# Altium schematic symbol library dungvh03-CERN_Logic.SchLib: 486 symbols (part 4 of 54)
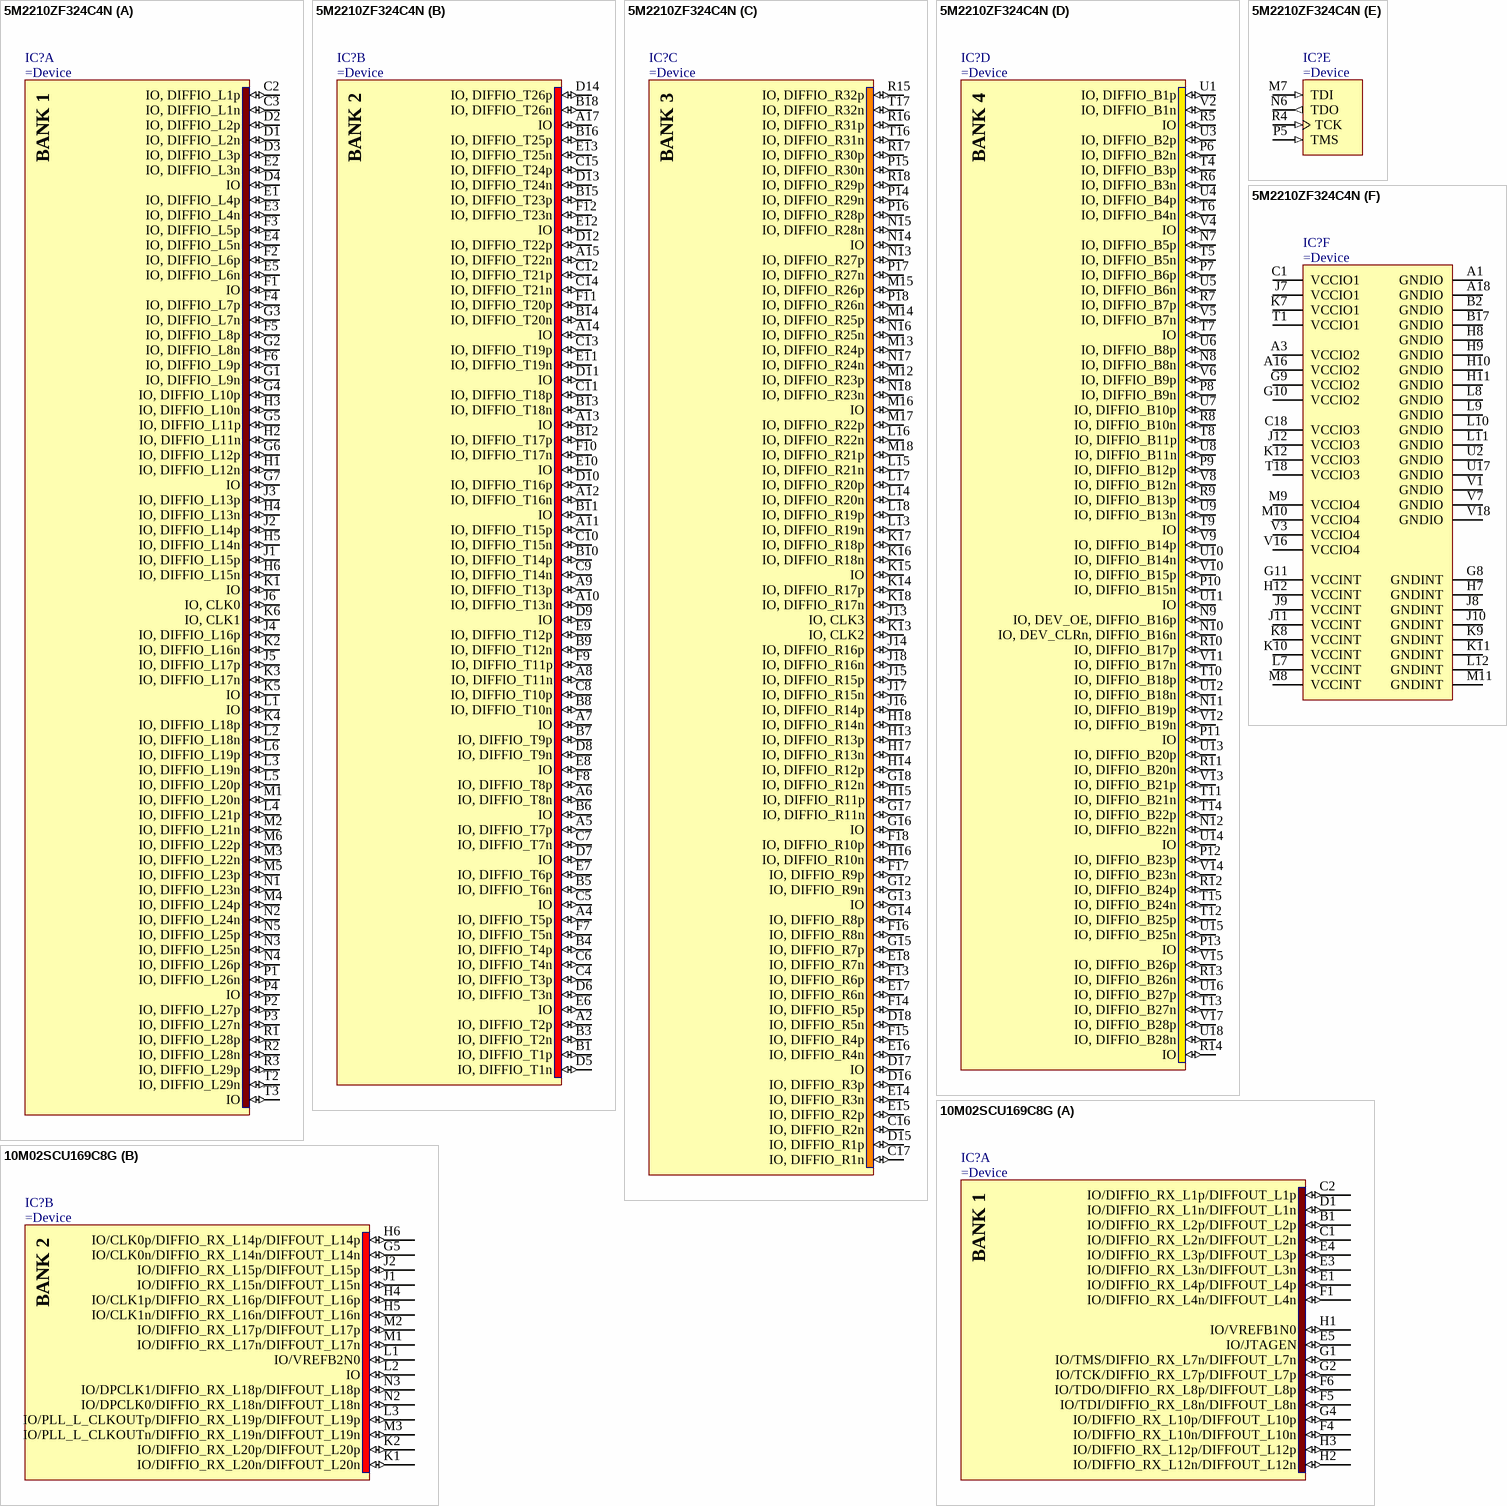
[diagram p264: symbols 5M2210ZF324C4N to 10M02SCU169C8G]

## 5M2210ZF324C4N
designator IC?
MAX V 1.8V CPLD, 271 IOs, 2210 Logic Elements, 324-Pin FBGA, Commercial Temperature, Speed Grade 4, Pb-Free
part A pins: C2 IO, DIFFIO_L1p (io), C3 IO, DIFFIO_L1n (io), D1 IO, DIFFIO_L2n (io), D2 IO, DIFFIO_L2p (io), D3 IO, DIFFIO_L3p (io), D4 IO (io), E1 IO, DIFFIO_L4p (io), E2 IO, DIFFIO_L3n (io), E3 IO, DIFFIO_L4n (io), E4 IO, DIFFIO_L5n (io), E5 IO, DIFFIO_L6n (io), F1 IO (io), F2 IO, DIFFIO_L6p (io), F3 IO, DIFFIO_L5p (io), F4 IO, DIFFIO_L7p (io), F5 IO, DIFFIO_L8p (io), F6 IO, DIFFIO_L9p (io), G1 IO, DIFFIO_L9n (io), G2 IO, DIFFIO_L8n (io), G3 IO, DIFFIO_L7n (io), G4 IO, DIFFIO_L10p (io), G5 IO, DIFFIO_L11p (io), G6 IO, DIFFIO_L12p (io), G7 IO (io), H1 IO, DIFFIO_L12n (io), H2 IO, DIFFIO_L11n (io), H3 IO, DIFFIO_L10n (io), H4 IO, DIFFIO_L13n (io), H5 IO, DIFFIO_L14n (io), H6 IO, DIFFIO_L15n (io), J1 IO, DIFFIO_L15p (io), J2 IO, DIFFIO_L14p (io), J3 IO, DIFFIO_L13p (io), J4 IO, DIFFIO_L16p (io), J5 IO, DIFFIO_L17p (io), J6 IO, CLK0 (io), K1 IO (io), K2 IO, DIFFIO_L16n (io), K3 IO, DIFFIO_L17n (io), K4 IO, DIFFIO_L18p (io), K5 IO (io), K6 IO, CLK1 (io), L1 IO (io), L2 IO, DIFFIO_L18n (io), L3 IO, DIFFIO_L19n (io), L4 IO, DIFFIO_L21p (io), L5 IO, DIFFIO_L20p (io), L6 IO, DIFFIO_L19p (io), M1 IO, DIFFIO_L20n (io), M2 IO, DIFFIO_L21n (io), M3 IO, DIFFIO_L22n (io), M4 IO, DIFFIO_L24p (io), M5 IO, DIFFIO_L23p (io), M6 IO, DIFFIO_L22p (io), N1 IO, DIFFIO_L23n (io), N2 IO, DIFFIO_L24n (io), N3 IO, DIFFIO_L25n (io), N4 IO, DIFFIO_L26p (io), N5 IO, DIFFIO_L25p (io), P1 IO, DIFFIO_L26n (io), P2 IO, DIFFIO_L27p (io), P3 IO, DIFFIO_L27n (io), P4 IO (io), R1 IO, DIFFIO_L28p (io), R2 IO, DIFFIO_L28n (io), R3 IO, DIFFIO_L29p (io), T2 IO, DIFFIO_L29n (io), T3 IO (io)
part B pins: A2 IO, DIFFIO_T2p (io), A4 IO, DIFFIO_T5p (io), A5 IO, DIFFIO_T7p (io), A6 IO, DIFFIO_T8n (io), A7 IO (io), A8 IO, DIFFIO_T11n (io), A9 IO, DIFFIO_T13p (io), A10 IO, DIFFIO_T13n (io), A11 IO, DIFFIO_T15p (io), A12 IO, DIFFIO_T16n (io), A13 IO (io), A14 IO (io), A15 IO, DIFFIO_T22n (io), A17 IO (io), B1 IO, DIFFIO_T1p (io), B3 IO, DIFFIO_T2n (io), B4 IO, DIFFIO_T4p (io), B5 IO, DIFFIO_T6n (io), B6 IO (io), B7 IO, DIFFIO_T9p (io), B8 IO, DIFFIO_T10n (io), B9 IO, DIFFIO_T12n (io), B10 IO, DIFFIO_T14p (io), B11 IO (io), B12 IO, DIFFIO_T17p (io), B13 IO, DIFFIO_T18n (io), B14 IO, DIFFIO_T20n (io), B15 IO, DIFFIO_T23p (io), B16 IO, DIFFIO_T25p (io), B18 IO, DIFFIO_T26n (io), C4 IO, DIFFIO_T3p (io), C5 IO (io), C6 IO, DIFFIO_T4n (io), C7 IO, DIFFIO_T7n (io), C8 IO, DIFFIO_T10p (io), C9 IO, DIFFIO_T14n (io), C10 IO, DIFFIO_T15n (io), C11 IO, DIFFIO_T18p (io), C12 IO, DIFFIO_T21p (io), C13 IO, DIFFIO_T19p (io), C14 IO, DIFFIO_T21n (io), C15 IO, DIFFIO_T24p (io), D5 IO, DIFFIO_T1n (io), D6 IO, DIFFIO_T3n (io), D7 IO (io), D8 IO, DIFFIO_T9n (io), D9 IO (io), D10 IO, DIFFIO_T16p (io), D11 IO (io), D12 IO, DIFFIO_T22p (io), D13 IO, DIFFIO_T24n (io), D14 IO, DIFFIO_T26p (io), E6 IO (io), E7 IO, DIFFIO_T6p (io), E8 IO (io), E9 IO, DIFFIO_T12p (io), E10 IO (io), E11 IO, DIFFIO_T19n (io), E12 IO (io), E13 IO, DIFFIO_T25n (io), F7 IO, DIFFIO_T5n (io), F8 IO, DIFFIO_T8p (io), F9 IO, DIFFIO_T11p (io), F10 IO, DIFFIO_T17n (io), F11 IO, DIFFIO_T20p (io), F12 IO, DIFFIO_T23n (io)
part C pins: C16 IO, DIFFIO_R2n (io), C17 IO, DIFFIO_R1n (io), D15 IO, DIFFIO_R1p (io), D16 IO, DIFFIO_R3p (io), D17 IO (io), D18 IO, DIFFIO_R5n (io), E14 IO, DIFFIO_R3n (io), E15 IO, DIFFIO_R2p (io), E16 IO, DIFFIO_R4n (io), E17 IO, DIFFIO_R6n (io), E18 IO, DIFFIO_R7n (io), F13 IO, DIFFIO_R6p (io), F14 IO, DIFFIO_R5p (io), F15 IO, DIFFIO_R4p (io), F16 IO, DIFFIO_R8n (io), F17 IO, DIFFIO_R9p (io), F18 IO, DIFFIO_R10p (io), G12 IO, DIFFIO_R9n (io), G13 IO (io), G14 IO, DIFFIO_R8p (io), G15 IO, DIFFIO_R7p (io), G16 IO (io), G17 IO, DIFFIO_R11n (io), G18 IO, DIFFIO_R12n (io), H13 IO, DIFFIO_R13p (io), H14 IO, DIFFIO_R12p (io), H15 IO, DIFFIO_R11p (io), H16 IO, DIFFIO_R10n (io), H17 IO, DIFFIO_R13n (io), H18 IO, DIFFIO_R14n (io), J13 IO, CLK3 (io), J14 IO, DIFFIO_R16p (io), J15 IO, DIFFIO_R15p (io), J16 IO, DIFFIO_R14p (io), J17 IO, DIFFIO_R15n (io), J18 IO, DIFFIO_R16n (io), K13 IO, CLK2 (io), K14 IO, DIFFIO_R17p (io), K15 IO (io), K16 IO, DIFFIO_R18n (io), K17 IO, DIFFIO_R18p (io), K18 IO, DIFFIO_R17n (io), L13 IO, DIFFIO_R19n (io), L14 IO, DIFFIO_R20n (io), L15 IO, DIFFIO_R21n (io), L16 IO, DIFFIO_R22n (io), L17 IO, DIFFIO_R20p (io), L18 IO, DIFFIO_R19p (io), M12 IO, DIFFIO_R23p (io), M13 IO, DIFFIO_R24p (io), M14 IO, DIFFIO_R25p (io), M15 IO, DIFFIO_R26p (io), M16 IO (io), M17 IO, DIFFIO_R22p (io), M18 IO, DIFFIO_R21p (io), N13 IO, DIFFIO_R27p (io), N14 IO (io), N15 IO, DIFFIO_R28n (io), N16 IO, DIFFIO_R25n (io), N17 IO, DIFFIO_R24n (io), N18 IO, DIFFIO_R23n (io), P14 IO, DIFFIO_R29n (io), P15 IO, DIFFIO_R30n (io), P16 IO, DIFFIO_R28p (io), P17 IO, DIFFIO_R27n (io), P18 IO, DIFFIO_R26n (io), R15 IO, DIFFIO_R32p (io), R16 IO, DIFFIO_R31p (io), R17 IO, DIFFIO_R30p (io), R18 IO, DIFFIO_R29p (io), T16 IO, DIFFIO_R31n (io), T17 IO, DIFFIO_R32n (io)
part D pins: N7 IO, DIFFIO_B5p (io), N8 IO, DIFFIO_B8n (io), N9 IO, DEV_OE, DIFFIO_B16p (io), N10 IO, DEV_CLRn, DIFFIO_B16n (io), N11 IO, DIFFIO_B19p (io), N12 IO, DIFFIO_B22n (io), P6 IO, DIFFIO_B2n (io), P7 IO, DIFFIO_B6p (io), P8 IO, DIFFIO_B9n (io), P9 IO, DIFFIO_B12p (io), P10 IO, DIFFIO_B15n (io), P11 IO (io), P12 IO, DIFFIO_B23p (io), P13 IO (io), R5 IO (io), R6 IO, DIFFIO_B3n (io), R7 IO, DIFFIO_B7p (io), R8 IO, DIFFIO_B10n (io), R9 IO, DIFFIO_B13p (io), R10 IO, DIFFIO_B17p (io), R11 IO, DIFFIO_B20n (io), R12 IO, DIFFIO_B24p (io), R13 IO, DIFFIO_B26n (io), R14 IO (io), T4 IO, DIFFIO_B3p (io), T5 IO, DIFFIO_B5n (io), T6 IO, DIFFIO_B4n (io), T7 IO (io), T8 IO, DIFFIO_B11p (io), T9 IO (io), T10 IO, DIFFIO_B18p (io), T11 IO, DIFFIO_B21n (io), T12 IO, DIFFIO_B25p (io), T13 IO, DIFFIO_B27n (io), T14 IO, DIFFIO_B22p (io), T15 IO, DIFFIO_B24n (io), U1 IO, DIFFIO_B1p (io), U3 IO, DIFFIO_B2p (io), U4 IO, DIFFIO_B4p (io), U5 IO, DIFFIO_B6n (io), U6 IO, DIFFIO_B8p (io), U7 IO, DIFFIO_B10p (io), U8 IO, DIFFIO_B11n (io), U9 IO, DIFFIO_B13n (io), U10 IO, DIFFIO_B14n (io), U11 IO (io), U12 IO, DIFFIO_B18n (io), U13 IO, DIFFIO_B20p (io), U14 IO (io), U15 IO, DIFFIO_B25n (io), U16 IO, DIFFIO_B27p (io), U18 IO, DIFFIO_B28n (io), V2 IO, DIFFIO_B1n (io), V4 IO (io), V5 IO, DIFFIO_B7n (io), V6 IO, DIFFIO_B9p (io), V8 IO, DIFFIO_B12n (io), V9 IO, DIFFIO_B14p (io), V10 IO, DIFFIO_B15p (io), V11 IO, DIFFIO_B17n (io), V12 IO, DIFFIO_B19n (io), V13 IO, DIFFIO_B21p (io), V14 IO, DIFFIO_B23n (io), V15 IO, DIFFIO_B26p (io), V17 IO, DIFFIO_B28p (io)
part E pins: M7 TDI (in), N6 TDO (out), P5 TMS (in), R4 TCK (in)
part F pins: A1 GNDIO (power), A3 VCCIO2 (power), A16 VCCIO2 (power), A18 GNDIO (power), B2 GNDIO (power), B17 GNDIO (power), C1 VCCIO1 (power), C18 VCCIO3 (power), G8 GNDINT (power), G9 VCCIO2 (power), G10 VCCIO2 (power), G11 VCCINT (power), H7 GNDINT (power), H8 GNDIO (power), H9 GNDIO (power), H10 GNDIO (power), H11 GNDIO (power), H12 VCCINT (power), J7 VCCIO1 (power), J8 GNDINT (power), J9 VCCINT (power), J10 GNDINT (power), J11 VCCINT (power), J12 VCCIO3 (power), K7 VCCIO1 (power), K8 VCCINT (power), K9 GNDINT (power), K10 VCCINT (power), K11 GNDINT (power), K12 VCCIO3 (power), L7 VCCINT (power), L8 GNDIO (power), L9 GNDIO (power), L10 GNDIO (power), L11 GNDIO (power), L12 GNDINT (power), M8 VCCINT (power), M9 VCCIO4 (power), M10 VCCIO4 (power), M11 GNDINT (power), T1 VCCIO1 (power), T18 VCCIO3 (power), U2 GNDIO (power), U17 GNDIO (power), V1 GNDIO (power), V3 VCCIO4 (power), V7 GNDIO (power), V16 VCCIO4 (power), V18 GNDIO (power)
part A text: BANK 1
part B text: BANK 2
part C text: BANK 3
part D text: BANK 4

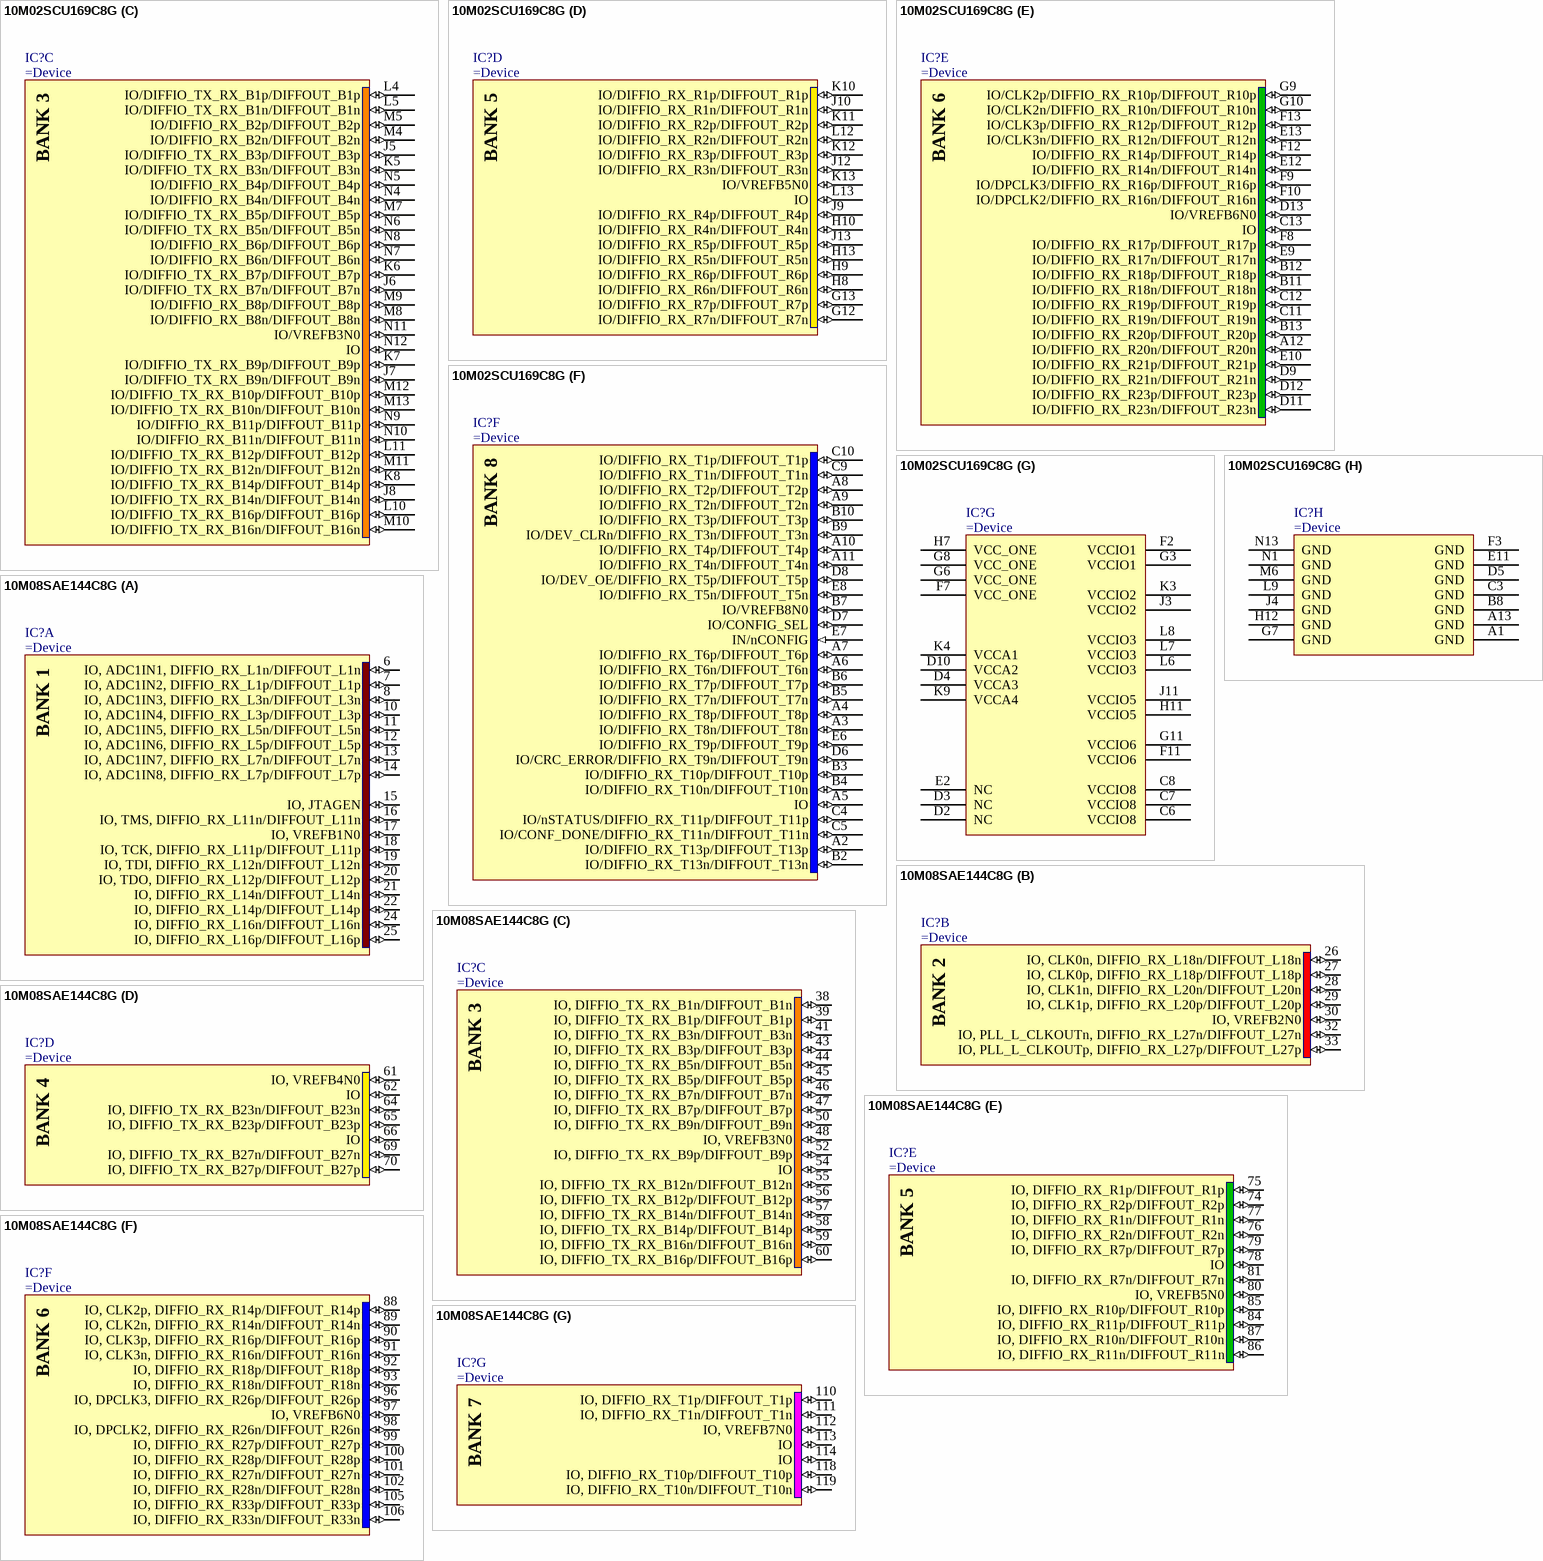
[diagram p16: symbols 10M02SCU169C8G to 10M08SAE144C8G]

## 10M02SCU169C8G
designator IC?
MAX 10 FPGA, Single-Supply 3.3V, 130IOs,  2K Logic Elements, 169-Pin UBGA, Commercial Temperature, Speed Grade 8, RoHS
part A pins: B1 IO/DIFFIO_RX_L2p/DIFFOUT_L2p (io), C1 IO/DIFFIO_RX_L2n/DIFFOUT_L2n (io), C2 IO/DIFFIO_RX_L1p/DIFFOUT_L1p (io), D1 IO/DIFFIO_RX_L1n/DIFFOUT_L1n (io), E1 IO/DIFFIO_RX_L4p/DIFFOUT_L4p (io), E3 IO/DIFFIO_RX_L3n/DIFFOUT_L3n (io), E4 IO/DIFFIO_RX_L3p/DIFFOUT_L3p (io), E5 IO/JTAGEN (io), F1 IO/DIFFIO_RX_L4n/DIFFOUT_L4n (io), F4 IO/DIFFIO_RX_L10n/DIFFOUT_L10n (io), F5 IO/TDI/DIFFIO_RX_L8n/DIFFOUT_L8n (io), F6 IO/TDO/DIFFIO_RX_L8p/DIFFOUT_L8p (io), G1 IO/TMS/DIFFIO_RX_L7n/DIFFOUT_L7n (io), G2 IO/TCK/DIFFIO_RX_L7p/DIFFOUT_L7p (io), G4 IO/DIFFIO_RX_L10p/DIFFOUT_L10p (io), H1 IO/VREFB1N0 (io), H2 IO/DIFFIO_RX_L12n/DIFFOUT_L12n (io), H3 IO/DIFFIO_RX_L12p/DIFFOUT_L12p (io)
part B pins: G5 IO/CLK0n/DIFFIO_RX_L14n/DIFFOUT_L14n (io), H4 IO/CLK1p/DIFFIO_RX_L16p/DIFFOUT_L16p (io), H5 IO/CLK1n/DIFFIO_RX_L16n/DIFFOUT_L16n (io), H6 IO/CLK0p/DIFFIO_RX_L14p/DIFFOUT_L14p (io), J1 IO/DIFFIO_RX_L15n/DIFFOUT_L15n (io), J2 IO/DIFFIO_RX_L15p/DIFFOUT_L15p (io), K1 IO/DIFFIO_RX_L20n/DIFFOUT_L20n (io), K2 IO/DIFFIO_RX_L20p/DIFFOUT_L20p (io), L1 IO/VREFB2N0 (io), L2 IO (io), L3 IO/PLL_L_CLKOUTp/DIFFIO_RX_L19p/DIFFOUT_L19p (io), M1 IO/DIFFIO_RX_L17n/DIFFOUT_L17n (io), M2 IO/DIFFIO_RX_L17p/DIFFOUT_L17p (io), M3 IO/PLL_L_CLKOUTn/DIFFIO_RX_L19n/DIFFOUT_L19n (io), N2 IO/DPCLK0/DIFFIO_RX_L18n/DIFFOUT_L18n (io), N3 IO/DPCLK1/DIFFIO_RX_L18p/DIFFOUT_L18p (io)
part C pins: J5 IO/DIFFIO_TX_RX_B3p/DIFFOUT_B3p (io), J6 IO/DIFFIO_TX_RX_B7n/DIFFOUT_B7n (io), J7 IO/DIFFIO_TX_RX_B9n/DIFFOUT_B9n (io), J8 IO/DIFFIO_TX_RX_B14n/DIFFOUT_B14n (io), K5 IO/DIFFIO_TX_RX_B3n/DIFFOUT_B3n (io), K6 IO/DIFFIO_TX_RX_B7p/DIFFOUT_B7p (io), K7 IO/DIFFIO_TX_RX_B9p/DIFFOUT_B9p (io), K8 IO/DIFFIO_TX_RX_B14p/DIFFOUT_B14p (io), L4 IO/DIFFIO_TX_RX_B1p/DIFFOUT_B1p (io), L5 IO/DIFFIO_TX_RX_B1n/DIFFOUT_B1n (io), L10 IO/DIFFIO_TX_RX_B16p/DIFFOUT_B16p (io), L11 IO/DIFFIO_TX_RX_B12p/DIFFOUT_B12p (io), M4 IO/DIFFIO_RX_B2n/DIFFOUT_B2n (io), M5 IO/DIFFIO_RX_B2p/DIFFOUT_B2p (io), M7 IO/DIFFIO_TX_RX_B5p/DIFFOUT_B5p (io), M8 IO/DIFFIO_RX_B8n/DIFFOUT_B8n (io), M9 IO/DIFFIO_RX_B8p/DIFFOUT_B8p (io), M10 IO/DIFFIO_TX_RX_B16n/DIFFOUT_B16n (io), M11 IO/DIFFIO_TX_RX_B12n/DIFFOUT_B12n (io), M12 IO/DIFFIO_TX_RX_B10p/DIFFOUT_B10p (io), M13 IO/DIFFIO_TX_RX_B10n/DIFFOUT_B10n (io), N4 IO/DIFFIO_RX_B4n/DIFFOUT_B4n (io), N5 IO/DIFFIO_RX_B4p/DIFFOUT_B4p (io), N6 IO/DIFFIO_TX_RX_B5n/DIFFOUT_B5n (io), N7 IO/DIFFIO_RX_B6n/DIFFOUT_B6n (io), N8 IO/DIFFIO_RX_B6p/DIFFOUT_B6p (io), N9 IO/DIFFIO_RX_B11p/DIFFOUT_B11p (io), N10 IO/DIFFIO_RX_B11n/DIFFOUT_B11n (io), N11 IO/VREFB3N0 (io), N12 IO (io)
part D pins: G12 IO/DIFFIO_RX_R7n/DIFFOUT_R7n (io), G13 IO/DIFFIO_RX_R7p/DIFFOUT_R7p (io), H8 IO/DIFFIO_RX_R6n/DIFFOUT_R6n (io), H9 IO/DIFFIO_RX_R6p/DIFFOUT_R6p (io), H10 IO/DIFFIO_RX_R4n/DIFFOUT_R4n (io), H13 IO/DIFFIO_RX_R5n/DIFFOUT_R5n (io), J9 IO/DIFFIO_RX_R4p/DIFFOUT_R4p (io), J10 IO/DIFFIO_RX_R1n/DIFFOUT_R1n (io), J12 IO/DIFFIO_RX_R3n/DIFFOUT_R3n (io), J13 IO/DIFFIO_RX_R5p/DIFFOUT_R5p (io), K10 IO/DIFFIO_RX_R1p/DIFFOUT_R1p (io), K11 IO/DIFFIO_RX_R2p/DIFFOUT_R2p (io), K12 IO/DIFFIO_RX_R3p/DIFFOUT_R3p (io), K13 IO/VREFB5N0 (io), L12 IO/DIFFIO_RX_R2n/DIFFOUT_R2n (io), L13 IO (io)
part E pins: A12 IO/DIFFIO_RX_R20n/DIFFOUT_R20n (io), B11 IO/DIFFIO_RX_R18n/DIFFOUT_R18n (io), B12 IO/DIFFIO_RX_R18p/DIFFOUT_R18p (io), B13 IO/DIFFIO_RX_R20p/DIFFOUT_R20p (io), C11 IO/DIFFIO_RX_R19n/DIFFOUT_R19n (io), C12 IO/DIFFIO_RX_R19p/DIFFOUT_R19p (io), C13 IO (io), D9 IO/DIFFIO_RX_R21n/DIFFOUT_R21n (io), D11 IO/DIFFIO_RX_R23n/DIFFOUT_R23n (io), D12 IO/DIFFIO_RX_R23p/DIFFOUT_R23p (io), D13 IO/VREFB6N0 (io), E9 IO/DIFFIO_RX_R17n/DIFFOUT_R17n (io), E10 IO/DIFFIO_RX_R21p/DIFFOUT_R21p (io), E12 IO/DIFFIO_RX_R14n/DIFFOUT_R14n (io), E13 IO/CLK3n/DIFFIO_RX_R12n/DIFFOUT_R12n (io), F8 IO/DIFFIO_RX_R17p/DIFFOUT_R17p (io), F9 IO/DPCLK3/DIFFIO_RX_R16p/DIFFOUT_R16p (io), F10 IO/DPCLK2/DIFFIO_RX_R16n/DIFFOUT_R16n (io), F12 IO/DIFFIO_RX_R14p/DIFFOUT_R14p (io), F13 IO/CLK3p/DIFFIO_RX_R12p/DIFFOUT_R12p (io), G9 IO/CLK2p/DIFFIO_RX_R10p/DIFFOUT_R10p (io), G10 IO/CLK2n/DIFFIO_RX_R10n/DIFFOUT_R10n (io)
part F pins: A2 IO/DIFFIO_RX_T13p/DIFFOUT_T13p (io), A3 IO/DIFFIO_RX_T8n/DIFFOUT_T8n (io), A4 IO/DIFFIO_RX_T8p/DIFFOUT_T8p (io), A5 IO (io), A6 IO/DIFFIO_RX_T6n/DIFFOUT_T6n (io), A7 IO/DIFFIO_RX_T6p/DIFFOUT_T6p (io), A8 IO/DIFFIO_RX_T2p/DIFFOUT_T2p (io), A9 IO/DIFFIO_RX_T2n/DIFFOUT_T2n (io), A10 IO/DIFFIO_RX_T4p/DIFFOUT_T4p (io), A11 IO/DIFFIO_RX_T4n/DIFFOUT_T4n (io), B2 IO/DIFFIO_RX_T13n/DIFFOUT_T13n (io), B3 IO/DIFFIO_RX_T10p/DIFFOUT_T10p (io), B4 IO/DIFFIO_RX_T10n/DIFFOUT_T10n (io), B5 IO/DIFFIO_RX_T7n/DIFFOUT_T7n (io), B6 IO/DIFFIO_RX_T7p/DIFFOUT_T7p (io), B7 IO/VREFB8N0 (io), B9 IO/DEV_CLRn/DIFFIO_RX_T3n/DIFFOUT_T3n (io), B10 IO/DIFFIO_RX_T3p/DIFFOUT_T3p (io), C4 IO/nSTATUS/DIFFIO_RX_T11p/DIFFOUT_T11p (io), C5 IO/CONF_DONE/DIFFIO_RX_T11n/DIFFOUT_T11n (io), C9 IO/DIFFIO_RX_T1n/DIFFOUT_T1n (io), C10 IO/DIFFIO_RX_T1p/DIFFOUT_T1p (io), D6 IO/CRC_ERROR/DIFFIO_RX_T9n/DIFFOUT_T9n (io), D7 IO/CONFIG_SEL (io), D8 IO/DEV_OE/DIFFIO_RX_T5p/DIFFOUT_T5p (io), E6 IO/DIFFIO_RX_T9p/DIFFOUT_T9p (io), E7 IN/nCONFIG (in), E8 IO/DIFFIO_RX_T5n/DIFFOUT_T5n (io)
part G pins: C6 VCCIO8 (power), C7 VCCIO8 (power), C8 VCCIO8 (power), D2 NC, D3 NC, D4 VCCA3 (power), D10 VCCA2 (power), E2 NC, F2 VCCIO1 (power), F7 VCC_ONE (power), F11 VCCIO6 (power), G3 VCCIO1 (power), G6 VCC_ONE (power), G8 VCC_ONE (power), G11 VCCIO6 (power), H7 VCC_ONE (power), H11 VCCIO5 (power), J3 VCCIO2 (power), J11 VCCIO5 (power), K3 VCCIO2 (power), K4 VCCA1 (power), K9 VCCA4 (power), L6 VCCIO3 (power), L7 VCCIO3 (power), L8 VCCIO3 (power)
part H pins: A1 GND (power), A13 GND (power), B8 GND (power), C3 GND (power), D5 GND (power), E11 GND (power), F3 GND (power), G7 GND (power), H12 GND (power), J4 GND (power), L9 GND (power), M6 GND (power), N1 GND (power), N13 GND (power)
part A text: BANK 1
part B text: BANK 2
part C text: BANK 3
part D text: BANK 5
part E text: BANK 6
part F text: BANK 8

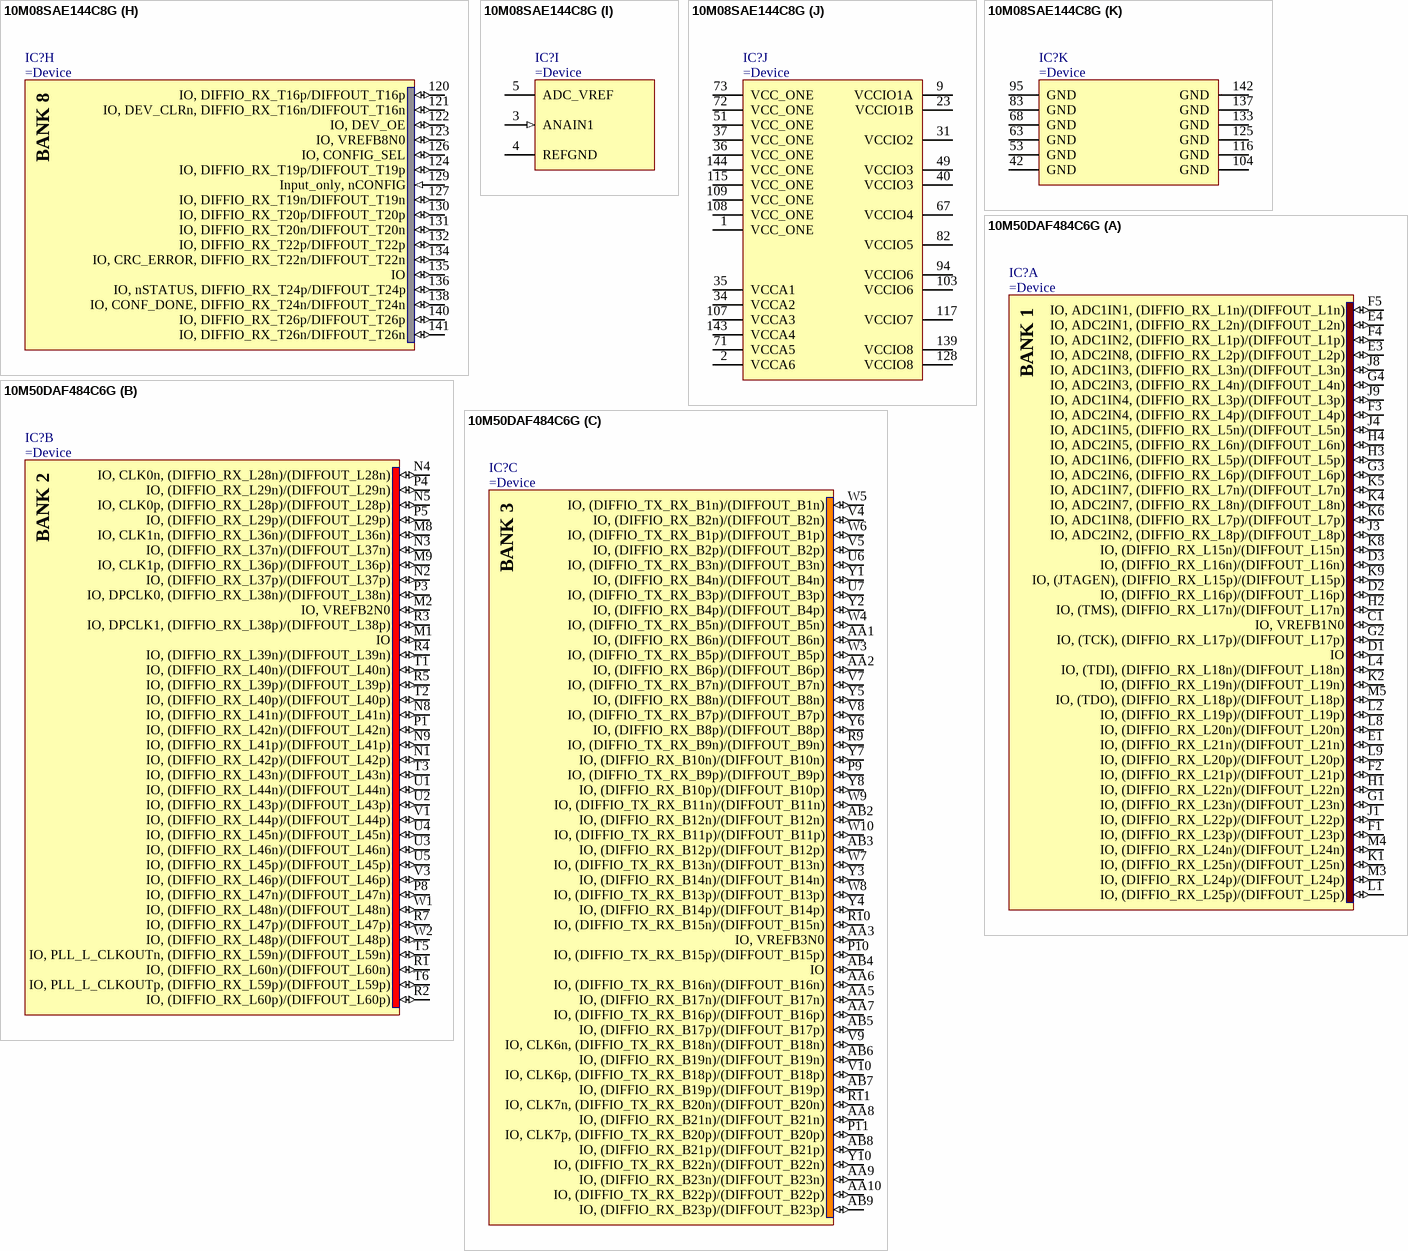
[diagram p17: symbols 10M08SAE144C8G to 10M50DAF484C6G]

## 10M08SAE144C8G
designator IC?
MAX 10 FPGA, Single-Supply 3.3V, 101IOs,  8K Logic Elements, 144-Pin QFP, Commercial Temperature, Speed Grade 8, RoHS6mercial Temperature, Speed Grade 8, RoHS6
part A pins: 6 IO, ADC1IN1, DIFFIO_RX_L1n/DIFFOUT_L1n (io), 7 IO, ADC1IN2, DIFFIO_RX_L1p/DIFFOUT_L1p (io), 8 IO, ADC1IN3, DIFFIO_RX_L3n/DIFFOUT_L3n (io), 10 IO, ADC1IN4, DIFFIO_RX_L3p/DIFFOUT_L3p (io), 11 IO, ADC1IN5, DIFFIO_RX_L5n/DIFFOUT_L5n (io), 12 IO, ADC1IN6, DIFFIO_RX_L5p/DIFFOUT_L5p (io), 13 IO, ADC1IN7, DIFFIO_RX_L7n/DIFFOUT_L7n (io), 14 IO, ADC1IN8, DIFFIO_RX_L7p/DIFFOUT_L7p (io), 15 IO, JTAGEN (io), 16 IO, TMS, DIFFIO_RX_L11n/DIFFOUT_L11n (io), 17 IO, VREFB1N0 (io), 18 IO, TCK, DIFFIO_RX_L11p/DIFFOUT_L11p (io), 19 IO, TDI, DIFFIO_RX_L12n/DIFFOUT_L12n (io), 20 IO, TDO, DIFFIO_RX_L12p/DIFFOUT_L12p (io), 21 IO, DIFFIO_RX_L14n/DIFFOUT_L14n (io), 22 IO, DIFFIO_RX_L14p/DIFFOUT_L14p (io), 24 IO, DIFFIO_RX_L16n/DIFFOUT_L16n (io), 25 IO, DIFFIO_RX_L16p/DIFFOUT_L16p (io)
part B pins: 26 IO, CLK0n, DIFFIO_RX_L18n/DIFFOUT_L18n (io), 27 IO, CLK0p, DIFFIO_RX_L18p/DIFFOUT_L18p (io), 28 IO, CLK1n, DIFFIO_RX_L20n/DIFFOUT_L20n (io), 29 IO, CLK1p, DIFFIO_RX_L20p/DIFFOUT_L20p (io), 30 IO, VREFB2N0 (io), 32 IO, PLL_L_CLKOUTn, DIFFIO_RX_L27n/DIFFOUT_L27n (io), 33 IO, PLL_L_CLKOUTp, DIFFIO_RX_L27p/DIFFOUT_L27p (io)
part C pins: 38 IO, DIFFIO_TX_RX_B1n/DIFFOUT_B1n (io), 39 IO, DIFFIO_TX_RX_B1p/DIFFOUT_B1p (io), 41 IO, DIFFIO_TX_RX_B3n/DIFFOUT_B3n (io), 43 IO, DIFFIO_TX_RX_B3p/DIFFOUT_B3p (io), 44 IO, DIFFIO_TX_RX_B5n/DIFFOUT_B5n (io), 45 IO, DIFFIO_TX_RX_B5p/DIFFOUT_B5p (io), 46 IO, DIFFIO_TX_RX_B7n/DIFFOUT_B7n (io), 47 IO, DIFFIO_TX_RX_B7p/DIFFOUT_B7p (io), 48 IO, VREFB3N0 (io), 50 IO, DIFFIO_TX_RX_B9n/DIFFOUT_B9n (io), 52 IO, DIFFIO_TX_RX_B9p/DIFFOUT_B9p (io), 54 IO (io), 55 IO, DIFFIO_TX_RX_B12n/DIFFOUT_B12n (io), 56 IO, DIFFIO_TX_RX_B12p/DIFFOUT_B12p (io), 57 IO, DIFFIO_TX_RX_B14n/DIFFOUT_B14n (io), 58 IO, DIFFIO_TX_RX_B14p/DIFFOUT_B14p (io), 59 IO, DIFFIO_TX_RX_B16n/DIFFOUT_B16n (io), 60 IO, DIFFIO_TX_RX_B16p/DIFFOUT_B16p (io)
part D pins: 61 IO, VREFB4N0 (io), 62 IO (io), 64 IO, DIFFIO_TX_RX_B23n/DIFFOUT_B23n (io), 65 IO, DIFFIO_TX_RX_B23p/DIFFOUT_B23p (io), 66 IO (io), 69 IO, DIFFIO_TX_RX_B27n/DIFFOUT_B27n (io), 70 IO, DIFFIO_TX_RX_B27p/DIFFOUT_B27p (io)
part E pins: 74 IO, DIFFIO_RX_R2p/DIFFOUT_R2p (io), 75 IO, DIFFIO_RX_R1p/DIFFOUT_R1p (io), 76 IO, DIFFIO_RX_R2n/DIFFOUT_R2n (io), 77 IO, DIFFIO_RX_R1n/DIFFOUT_R1n (io), 78 IO (io), 79 IO, DIFFIO_RX_R7p/DIFFOUT_R7p (io), 80 IO, VREFB5N0 (io), 81 IO, DIFFIO_RX_R7n/DIFFOUT_R7n (io), 84 IO, DIFFIO_RX_R11p/DIFFOUT_R11p (io), 85 IO, DIFFIO_RX_R10p/DIFFOUT_R10p (io), 86 IO, DIFFIO_RX_R11n/DIFFOUT_R11n (io), 87 IO, DIFFIO_RX_R10n/DIFFOUT_R10n (io)
part F pins: 88 IO, CLK2p, DIFFIO_RX_R14p/DIFFOUT_R14p (io), 89 IO, CLK2n, DIFFIO_RX_R14n/DIFFOUT_R14n (io), 90 IO, CLK3p, DIFFIO_RX_R16p/DIFFOUT_R16p (io), 91 IO, CLK3n, DIFFIO_RX_R16n/DIFFOUT_R16n (io), 92 IO, DIFFIO_RX_R18p/DIFFOUT_R18p (io), 93 IO, DIFFIO_RX_R18n/DIFFOUT_R18n (io), 96 IO, DPCLK3, DIFFIO_RX_R26p/DIFFOUT_R26p (io), 97 IO, VREFB6N0 (io), 98 IO, DPCLK2, DIFFIO_RX_R26n/DIFFOUT_R26n (io), 99 IO, DIFFIO_RX_R27p/DIFFOUT_R27p (io), 100 IO, DIFFIO_RX_R28p/DIFFOUT_R28p (io), 101 IO, DIFFIO_RX_R27n/DIFFOUT_R27n (io), 102 IO, DIFFIO_RX_R28n/DIFFOUT_R28n (io), 105 IO, DIFFIO_RX_R33p/DIFFOUT_R33p (io), 106 IO, DIFFIO_RX_R33n/DIFFOUT_R33n (io)
part G pins: 110 IO, DIFFIO_RX_T1p/DIFFOUT_T1p (io), 111 IO, DIFFIO_RX_T1n/DIFFOUT_T1n (io), 112 IO, VREFB7N0 (io), 113 IO (io), 114 IO (io), 118 IO, DIFFIO_RX_T10p/DIFFOUT_T10p (io), 119 IO, DIFFIO_RX_T10n/DIFFOUT_T10n (io)
part H pins: 120 IO, DIFFIO_RX_T16p/DIFFOUT_T16p (io), 121 IO, DEV_CLRn, DIFFIO_RX_T16n/DIFFOUT_T16n (io), 122 IO, DEV_OE (io), 123 IO, VREFB8N0 (io), 124 IO, DIFFIO_RX_T19p/DIFFOUT_T19p (io), 126 IO, CONFIG_SEL (io), 127 IO, DIFFIO_RX_T19n/DIFFOUT_T19n (io), 129 Input_only, nCONFIG (in), 130 IO, DIFFIO_RX_T20p/DIFFOUT_T20p (io), 131 IO, DIFFIO_RX_T20n/DIFFOUT_T20n (io), 132 IO, DIFFIO_RX_T22p/DIFFOUT_T22p (io), 134 IO, CRC_ERROR, DIFFIO_RX_T22n/DIFFOUT_T22n (io), 135 IO (io), 136 IO, nSTATUS, DIFFIO_RX_T24p/DIFFOUT_T24p (io), 138 IO, CONF_DONE, DIFFIO_RX_T24n/DIFFOUT_T24n (io), 140 IO, DIFFIO_RX_T26p/DIFFOUT_T26p (io), 141 IO, DIFFIO_RX_T26n/DIFFOUT_T26n (io)
part I pins: 3 ANAIN1 (in), 4 REFGND (power), 5 ADC_VREF (power)
part J pins: 1 VCC_ONE (power), 2 VCCA6 (power), 9 VCCIO1A (power), 23 VCCIO1B (power), 31 VCCIO2 (power), 34 VCCA2 (power), 35 VCCA1 (power), 36 VCC_ONE (power), 37 VCC_ONE (power), 40 VCCIO3 (power), 49 VCCIO3 (power), 51 VCC_ONE (power), 67 VCCIO4 (power), 71 VCCA5 (power), 72 VCC_ONE (power), 73 VCC_ONE (power), 82 VCCIO5 (power), 94 VCCIO6 (power), 103 VCCIO6 (power), 107 VCCA3 (power), 108 VCC_ONE (power), 109 VCC_ONE (power), 115 VCC_ONE (power), 117 VCCIO7 (power), 128 VCCIO8 (power), 139 VCCIO8 (power), 143 VCCA4 (power), 144 VCC_ONE (power)
part K pins: 42 GND (power), 53 GND (power), 63 GND (power), 68 GND (power), 83 GND (power), 95 GND (power), 104 GND (power), 116 GND (power), 125 GND (power), 133 GND (power), 137 GND (power), 142 GND (power)
part A text: BANK 1
part B text: BANK 2
part C text: BANK 3
part D text: BANK 4
part E text: BANK 5
part F text: BANK 6
part G text: BANK 7
part H text: BANK 8

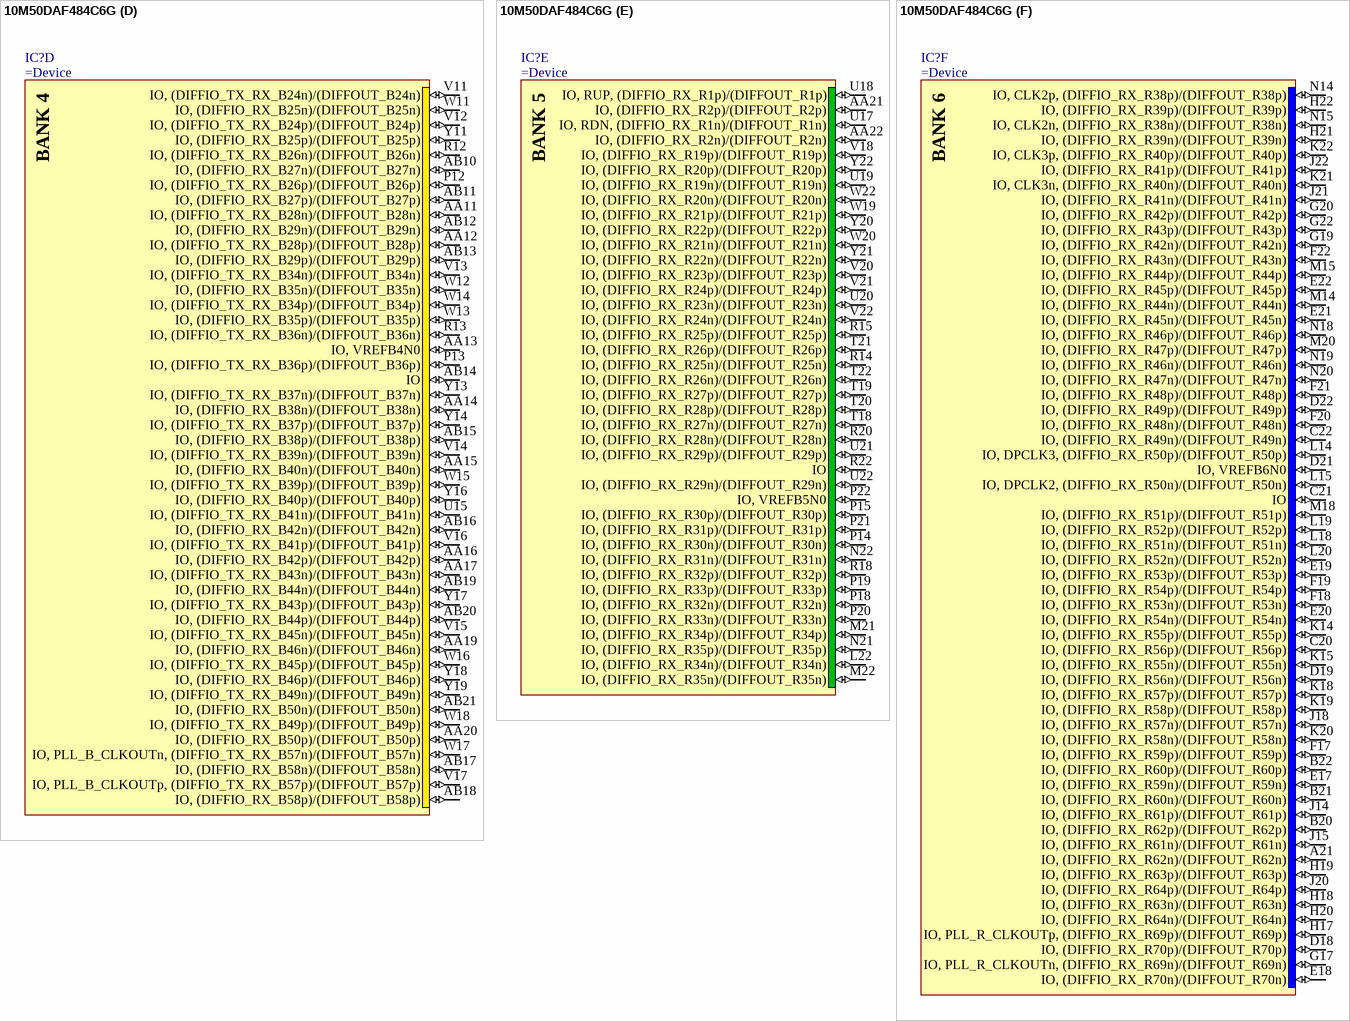
[diagram p18: symbol 10M50DAF484C6G]

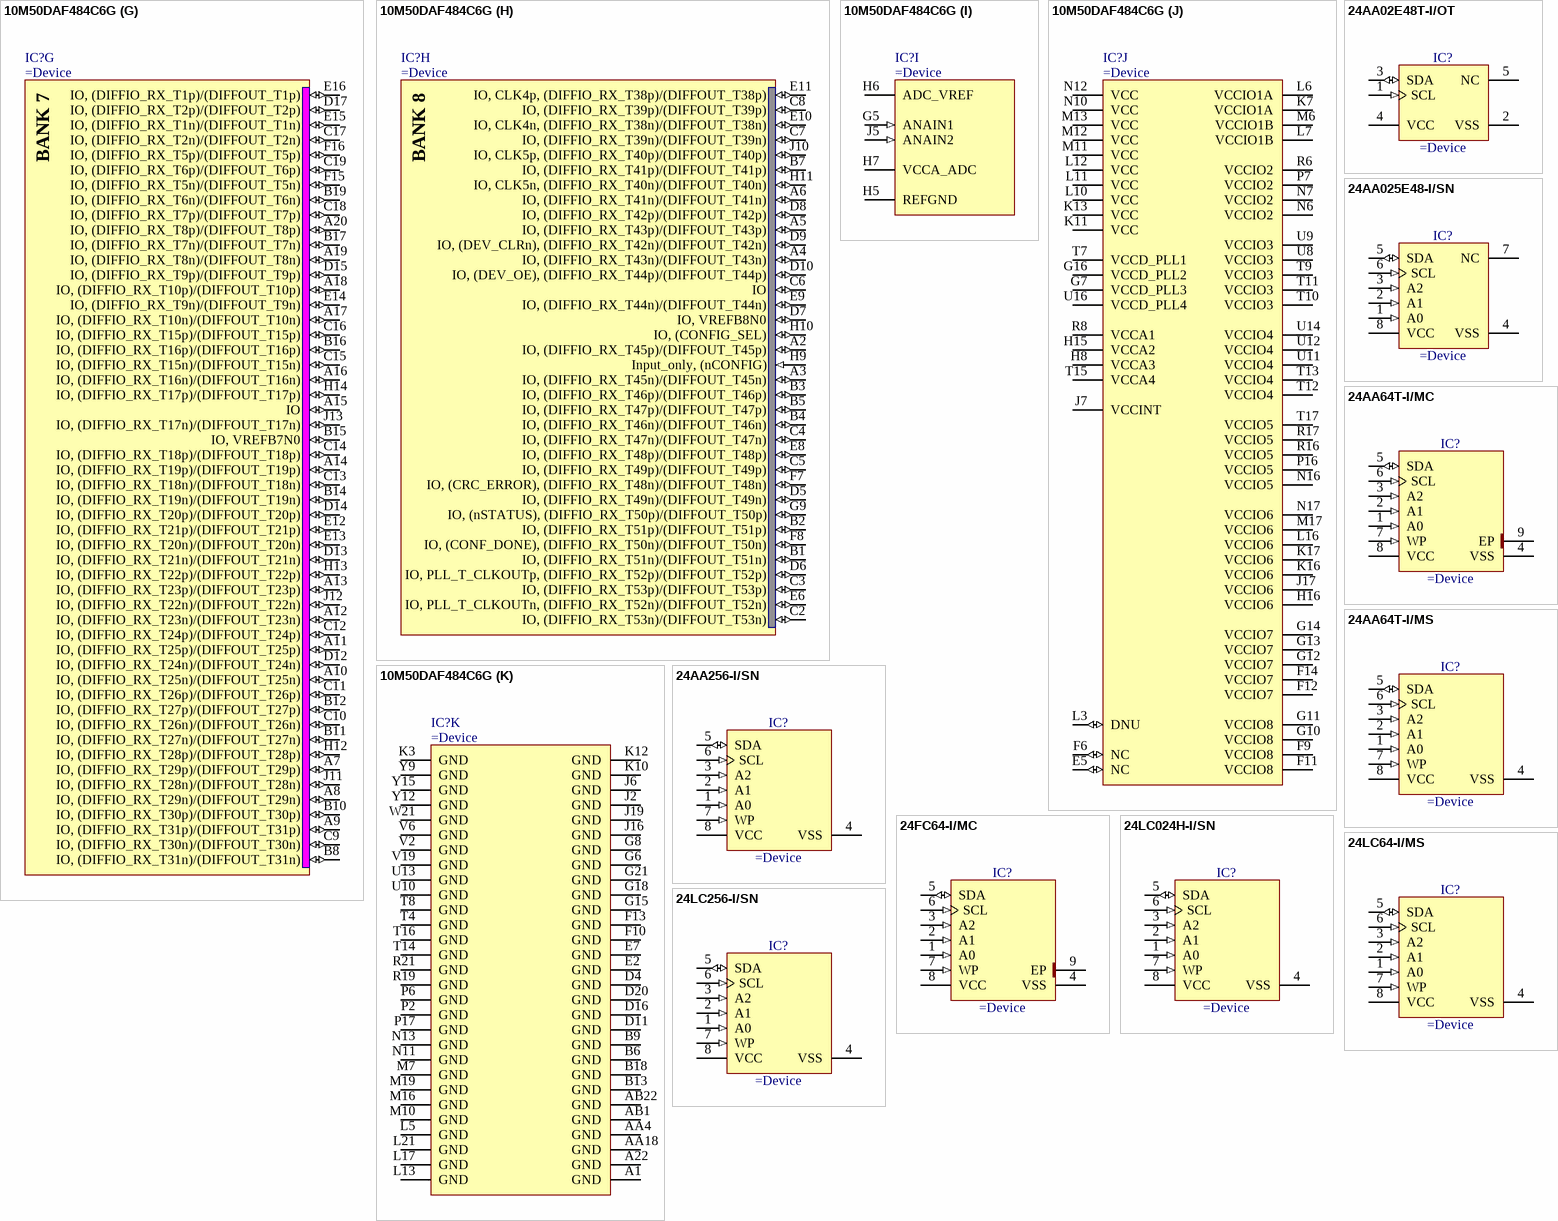
[diagram p19: symbols 10M50DAF484C6G to 24LC256-I/SN]

## 10M50DAF484C6G
designator IC?
MAX 10 FPGA, Dual-Supply 1.2V/2.5V, 360 IOs, 50K Logic Elements, 484-Pin FBGA, Commercial Temperature, Speed Grade 6, RoHS6
part A pins: C1 IO, VREFB1N0 (io), D1 IO (io), D2 IO, (DIFFIO_RX_L16p)/(DIFFOUT_L16p) (io), D3 IO, (DIFFIO_RX_L16n)/(DIFFOUT_L16n) (io), E1 IO, (DIFFIO_RX_L21n)/(DIFFOUT_L21n) (io), E3 IO, ADC2IN8, (DIFFIO_RX_L2p)/(DIFFOUT_L2p) (io), E4 IO, ADC2IN1, (DIFFIO_RX_L2n)/(DIFFOUT_L2n) (io), F1 IO, (DIFFIO_RX_L23p)/(DIFFOUT_L23p) (io), F2 IO, (DIFFIO_RX_L21p)/(DIFFOUT_L21p) (io), F3 IO, ADC2IN4, (DIFFIO_RX_L4p)/(DIFFOUT_L4p) (io), F4 IO, ADC1IN2, (DIFFIO_RX_L1p)/(DIFFOUT_L1p) (io), F5 IO, ADC1IN1, (DIFFIO_RX_L1n)/(DIFFOUT_L1n) (io), G1 IO, (DIFFIO_RX_L23n)/(DIFFOUT_L23n) (io), G2 IO, (TCK), (DIFFIO_RX_L17p)/(DIFFOUT_L17p) (io), G3 IO, ADC2IN6, (DIFFIO_RX_L6p)/(DIFFOUT_L6p) (io), G4 IO, ADC2IN3, (DIFFIO_RX_L4n)/(DIFFOUT_L4n) (io), H1 IO, (DIFFIO_RX_L22n)/(DIFFOUT_L22n) (io), H2 IO, (TMS), (DIFFIO_RX_L17n)/(DIFFOUT_L17n) (io), H3 IO, ADC1IN6, (DIFFIO_RX_L5p)/(DIFFOUT_L5p) (io), H4 IO, ADC2IN5, (DIFFIO_RX_L6n)/(DIFFOUT_L6n) (io), J1 IO, (DIFFIO_RX_L22p)/(DIFFOUT_L22p) (io), J3 IO, ADC2IN2, (DIFFIO_RX_L8p)/(DIFFOUT_L8p) (io), J4 IO, ADC1IN5, (DIFFIO_RX_L5n)/(DIFFOUT_L5n) (io), J8 IO, ADC1IN3, (DIFFIO_RX_L3n)/(DIFFOUT_L3n) (io), J9 IO, ADC1IN4, (DIFFIO_RX_L3p)/(DIFFOUT_L3p) (io), K1 IO, (DIFFIO_RX_L25n)/(DIFFOUT_L25n) (io), K2 IO, (DIFFIO_RX_L19n)/(DIFFOUT_L19n) (io), K4 IO, ADC2IN7, (DIFFIO_RX_L8n)/(DIFFOUT_L8n) (io), K5 IO, ADC1IN7, (DIFFIO_RX_L7n)/(DIFFOUT_L7n) (io), K6 IO, ADC1IN8, (DIFFIO_RX_L7p)/(DIFFOUT_L7p) (io), K8 IO, (DIFFIO_RX_L15n)/(DIFFOUT_L15n) (io), K9 IO, (JTAGEN), (DIFFIO_RX_L15p)/(DIFFOUT_L15p) (io), L1 IO, (DIFFIO_RX_L25p)/(DIFFOUT_L25p) (io), L2 IO, (DIFFIO_RX_L19p)/(DIFFOUT_L19p) (io), L4 IO, (TDI), (DIFFIO_RX_L18n)/(DIFFOUT_L18n) (io), L8 IO, (DIFFIO_RX_L20n)/(DIFFOUT_L20n) (io), L9 IO, (DIFFIO_RX_L20p)/(DIFFOUT_L20p) (io), M3 IO, (DIFFIO_RX_L24p)/(DIFFOUT_L24p) (io), M4 IO, (DIFFIO_RX_L24n)/(DIFFOUT_L24n) (io), M5 IO, (TDO), (DIFFIO_RX_L18p)/(DIFFOUT_L18p) (io)
part B pins: M1 IO (io), M2 IO, VREFB2N0 (io), M8 IO, CLK1n, (DIFFIO_RX_L36n)/(DIFFOUT_L36n) (io), M9 IO, CLK1p, (DIFFIO_RX_L36p)/(DIFFOUT_L36p) (io), N1 IO, (DIFFIO_RX_L42p)/(DIFFOUT_L42p) (io), N2 IO, (DIFFIO_RX_L37p)/(DIFFOUT_L37p) (io), N3 IO, (DIFFIO_RX_L37n)/(DIFFOUT_L37n) (io), N4 IO, CLK0n, (DIFFIO_RX_L28n)/(DIFFOUT_L28n) (io), N5 IO, CLK0p, (DIFFIO_RX_L28p)/(DIFFOUT_L28p) (io), N8 IO, (DIFFIO_RX_L41n)/(DIFFOUT_L41n) (io), N9 IO, (DIFFIO_RX_L41p)/(DIFFOUT_L41p) (io), P1 IO, (DIFFIO_RX_L42n)/(DIFFOUT_L42n) (io), P3 IO, DPCLK0, (DIFFIO_RX_L38n)/(DIFFOUT_L38n) (io), P4 IO, (DIFFIO_RX_L29n)/(DIFFOUT_L29n) (io), P5 IO, (DIFFIO_RX_L29p)/(DIFFOUT_L29p) (io), P8 IO, (DIFFIO_RX_L47n)/(DIFFOUT_L47n) (io), R1 IO, (DIFFIO_RX_L60n)/(DIFFOUT_L60n) (io), R2 IO, (DIFFIO_RX_L60p)/(DIFFOUT_L60p) (io), R3 IO, DPCLK1, (DIFFIO_RX_L38p)/(DIFFOUT_L38p) (io), R4 IO, (DIFFIO_RX_L39n)/(DIFFOUT_L39n) (io), R5 IO, (DIFFIO_RX_L39p)/(DIFFOUT_L39p) (io), R7 IO, (DIFFIO_RX_L47p)/(DIFFOUT_L47p) (io), T1 IO, (DIFFIO_RX_L40n)/(DIFFOUT_L40n) (io), T2 IO, (DIFFIO_RX_L40p)/(DIFFOUT_L40p) (io), T3 IO, (DIFFIO_RX_L43n)/(DIFFOUT_L43n) (io), T5 IO, PLL_L_CLKOUTn, (DIFFIO_RX_L59n)/(DIFFOUT_L59n) (io), T6 IO, PLL_L_CLKOUTp, (DIFFIO_RX_L59p)/(DIFFOUT_L59p) (io), U1 IO, (DIFFIO_RX_L44n)/(DIFFOUT_L44n) (io), U2 IO, (DIFFIO_RX_L43p)/(DIFFOUT_L43p) (io), U3 IO, (DIFFIO_RX_L46n)/(DIFFOUT_L46n) (io), U4 IO, (DIFFIO_RX_L45n)/(DIFFOUT_L45n) (io), U5 IO, (DIFFIO_RX_L45p)/(DIFFOUT_L45p) (io), V1 IO, (DIFFIO_RX_L44p)/(DIFFOUT_L44p) (io), V3 IO, (DIFFIO_RX_L46p)/(DIFFOUT_L46p) (io), W1 IO, (DIFFIO_RX_L48n)/(DIFFOUT_L48n) (io), W2 IO, (DIFFIO_RX_L48p)/(DIFFOUT_L48p) (io)
part C pins: AA1 IO, (DIFFIO_RX_B6n)/(DIFFOUT_B6n) (io), AA2 IO, (DIFFIO_RX_B6p)/(DIFFOUT_B6p) (io), AA3 IO, VREFB3N0 (io), AA5 IO, (DIFFIO_RX_B17n)/(DIFFOUT_B17n) (io), AA6 IO, (DIFFIO_TX_RX_B16n)/(DIFFOUT_B16n) (io), AA7 IO, (DIFFIO_TX_RX_B16p)/(DIFFOUT_B16p) (io), AA8 IO, (DIFFIO_RX_B21n)/(DIFFOUT_B21n) (io), AA9 IO, (DIFFIO_RX_B23n)/(DIFFOUT_B23n) (io), AA10 IO, (DIFFIO_TX_RX_B22p)/(DIFFOUT_B22p) (io), AB2 IO, (DIFFIO_RX_B12n)/(DIFFOUT_B12n) (io), AB3 IO, (DIFFIO_RX_B12p)/(DIFFOUT_B12p) (io), AB4 IO (io), AB5 IO, (DIFFIO_RX_B17p)/(DIFFOUT_B17p) (io), AB6 IO, (DIFFIO_RX_B19n)/(DIFFOUT_B19n) (io), AB7 IO, (DIFFIO_RX_B19p)/(DIFFOUT_B19p) (io), AB8 IO, (DIFFIO_RX_B21p)/(DIFFOUT_B21p) (io), AB9 IO, (DIFFIO_RX_B23p)/(DIFFOUT_B23p) (io), P9 IO, (DIFFIO_TX_RX_B9p)/(DIFFOUT_B9p) (io), P10 IO, (DIFFIO_TX_RX_B15p)/(DIFFOUT_B15p) (io), P11 IO, CLK7p, (DIFFIO_TX_RX_B20p)/(DIFFOUT_B20p) (io), R9 IO, (DIFFIO_TX_RX_B9n)/(DIFFOUT_B9n) (io), R10 IO, (DIFFIO_TX_RX_B15n)/(DIFFOUT_B15n) (io), R11 IO, CLK7n, (DIFFIO_TX_RX_B20n)/(DIFFOUT_B20n) (io), U6 IO, (DIFFIO_TX_RX_B3n)/(DIFFOUT_B3n) (io), U7 IO, (DIFFIO_TX_RX_B3p)/(DIFFOUT_B3p) (io), V4 IO, (DIFFIO_RX_B2n)/(DIFFOUT_B2n) (io), V5 IO, (DIFFIO_RX_B2p)/(DIFFOUT_B2p) (io), V7 IO, (DIFFIO_TX_RX_B7n)/(DIFFOUT_B7n) (io), V8 IO, (DIFFIO_TX_RX_B7p)/(DIFFOUT_B7p) (io), V9 IO, CLK6n, (DIFFIO_TX_RX_B18n)/(DIFFOUT_B18n) (io), V10 IO, CLK6p, (DIFFIO_TX_RX_B18p)/(DIFFOUT_B18p) (io), W3 IO, (DIFFIO_TX_RX_B5p)/(DIFFOUT_B5p) (io), W4 IO, (DIFFIO_TX_RX_B5n)/(DIFFOUT_B5n) (io), W5 IO, (DIFFIO_TX_RX_B1n)/(DIFFOUT_B1n) (io), W6 IO, (DIFFIO_TX_RX_B1p)/(DIFFOUT_B1p) (io), W7 IO, (DIFFIO_TX_RX_B13n)/(DIFFOUT_B13n) (io), W8 IO, (DIFFIO_TX_RX_B13p)/(DIFFOUT_B13p) (io), W9 IO, (DIFFIO_TX_RX_B11n)/(DIFFOUT_B11n) (io), W10 IO, (DIFFIO_TX_RX_B11p)/(DIFFOUT_B11p) (io), Y1 IO, (DIFFIO_RX_B4n)/(DIFFOUT_B4n) (io), Y2 IO, (DIFFIO_RX_B4p)/(DIFFOUT_B4p) (io), Y3 IO, (DIFFIO_RX_B14n)/(DIFFOUT_B14n) (io), Y4 IO, (DIFFIO_RX_B14p)/(DIFFOUT_B14p) (io), Y5 IO, (DIFFIO_RX_B8n)/(DIFFOUT_B8n) (io), Y6 IO, (DIFFIO_RX_B8p)/(DIFFOUT_B8p) (io), Y7 IO, (DIFFIO_RX_B10n)/(DIFFOUT_B10n) (io), Y8 IO, (DIFFIO_RX_B10p)/(DIFFOUT_B10p) (io), Y10 IO, (DIFFIO_TX_RX_B22n)/(DIFFOUT_B22n) (io)
part D pins: AA11 IO, (DIFFIO_TX_RX_B28n)/(DIFFOUT_B28n) (io), AA12 IO, (DIFFIO_TX_RX_B28p)/(DIFFOUT_B28p) (io), AA13 IO, VREFB4N0 (io), AA14 IO, (DIFFIO_RX_B38n)/(DIFFOUT_B38n) (io), AA15 IO, (DIFFIO_RX_B40n)/(DIFFOUT_B40n) (io), AA16 IO, (DIFFIO_RX_B42p)/(DIFFOUT_B42p) (io), AA17 IO, (DIFFIO_TX_RX_B43n)/(DIFFOUT_B43n) (io), AA19 IO, (DIFFIO_RX_B46n)/(DIFFOUT_B46n) (io), AA20 IO, (DIFFIO_RX_B50p)/(DIFFOUT_B50p) (io), AB10 IO, (DIFFIO_RX_B27n)/(DIFFOUT_B27n) (io), AB11 IO, (DIFFIO_RX_B27p)/(DIFFOUT_B27p) (io), AB12 IO, (DIFFIO_RX_B29n)/(DIFFOUT_B29n) (io), AB13 IO, (DIFFIO_RX_B29p)/(DIFFOUT_B29p) (io), AB14 IO (io), AB15 IO, (DIFFIO_RX_B38p)/(DIFFOUT_B38p) (io), AB16 IO, (DIFFIO_RX_B42n)/(DIFFOUT_B42n) (io), AB17 IO, (DIFFIO_RX_B58n)/(DIFFOUT_B58n) (io), AB18 IO, (DIFFIO_RX_B58p)/(DIFFOUT_B58p) (io), AB19 IO, (DIFFIO_RX_B44n)/(DIFFOUT_B44n) (io), AB20 IO, (DIFFIO_RX_B44p)/(DIFFOUT_B44p) (io), AB21 IO, (DIFFIO_RX_B50n)/(DIFFOUT_B50n) (io), P12 IO, (DIFFIO_TX_RX_B26p)/(DIFFOUT_B26p) (io), P13 IO, (DIFFIO_TX_RX_B36p)/(DIFFOUT_B36p) (io), R12 IO, (DIFFIO_TX_RX_B26n)/(DIFFOUT_B26n) (io), R13 IO, (DIFFIO_TX_RX_B36n)/(DIFFOUT_B36n) (io), U15 IO, (DIFFIO_TX_RX_B41n)/(DIFFOUT_B41n) (io), V11 IO, (DIFFIO_TX_RX_B24n)/(DIFFOUT_B24n) (io), V12 IO, (DIFFIO_TX_RX_B24p)/(DIFFOUT_B24p) (io), V13 IO, (DIFFIO_TX_RX_B34n)/(DIFFOUT_B34n) (io), V14 IO, (DIFFIO_TX_RX_B39n)/(DIFFOUT_B39n) (io), V15 IO, (DIFFIO_TX_RX_B45n)/(DIFFOUT_B45n) (io), V16 IO, (DIFFIO_TX_RX_B41p)/(DIFFOUT_B41p) (io), V17 IO, PLL_B_CLKOUTp, (DIFFIO_TX_RX_B57p)/(DIFFOUT_B57p) (io), W11 IO, (DIFFIO_RX_B25n)/(DIFFOUT_B25n) (io), W12 IO, (DIFFIO_RX_B35n)/(DIFFOUT_B35n) (io), W13 IO, (DIFFIO_RX_B35p)/(DIFFOUT_B35p) (io), W14 IO, (DIFFIO_TX_RX_B34p)/(DIFFOUT_B34p) (io), W15 IO, (DIFFIO_TX_RX_B39p)/(DIFFOUT_B39p) (io), W16 IO, (DIFFIO_TX_RX_B45p)/(DIFFOUT_B45p) (io), W17 IO, PLL_B_CLKOUTn, (DIFFIO_TX_RX_B57n)/(DIFFOUT_B57n) (io), W18 IO, (DIFFIO_TX_RX_B49p)/(DIFFOUT_B49p) (io), Y11 IO, (DIFFIO_RX_B25p)/(DIFFOUT_B25p) (io), Y13 IO, (DIFFIO_TX_RX_B37n)/(DIFFOUT_B37n) (io), Y14 IO, (DIFFIO_TX_RX_B37p)/(DIFFOUT_B37p) (io), Y16 IO, (DIFFIO_RX_B40p)/(DIFFOUT_B40p) (io), Y17 IO, (DIFFIO_TX_RX_B43p)/(DIFFOUT_B43p) (io), Y18 IO, (DIFFIO_RX_B46p)/(DIFFOUT_B46p) (io), Y19 IO, (DIFFIO_TX_RX_B49n)/(DIFFOUT_B49n) (io)
part E pins: AA21 IO, (DIFFIO_RX_R2p)/(DIFFOUT_R2p) (io), AA22 IO, (DIFFIO_RX_R2n)/(DIFFOUT_R2n) (io), L22 IO, (DIFFIO_RX_R34n)/(DIFFOUT_R34n) (io), M21 IO, (DIFFIO_RX_R34p)/(DIFFOUT_R34p) (io), M22 IO, (DIFFIO_RX_R35n)/(DIFFOUT_R35n) (io), N21 IO, (DIFFIO_RX_R35p)/(DIFFOUT_R35p) (io), N22 IO, (DIFFIO_RX_R31n)/(DIFFOUT_R31n) (io), P14 IO, (DIFFIO_RX_R30n)/(DIFFOUT_R30n) (io), P15 IO, (DIFFIO_RX_R30p)/(DIFFOUT_R30p) (io), P18 IO, (DIFFIO_RX_R32n)/(DIFFOUT_R32n) (io), P19 IO, (DIFFIO_RX_R33p)/(DIFFOUT_R33p) (io), P20 IO, (DIFFIO_RX_R33n)/(DIFFOUT_R33n) (io), P21 IO, (DIFFIO_RX_R31p)/(DIFFOUT_R31p) (io), P22 IO, VREFB5N0 (io), R14 IO, (DIFFIO_RX_R25n)/(DIFFOUT_R25n) (io), R15 IO, (DIFFIO_RX_R25p)/(DIFFOUT_R25p) (io), R18 IO, (DIFFIO_RX_R32p)/(DIFFOUT_R32p) (io), R20 IO, (DIFFIO_RX_R28n)/(DIFFOUT_R28n) (io), R22 IO (io), T18 IO, (DIFFIO_RX_R27n)/(DIFFOUT_R27n) (io), T19 IO, (DIFFIO_RX_R27p)/(DIFFOUT_R27p) (io), T20 IO, (DIFFIO_RX_R28p)/(DIFFOUT_R28p) (io), T21 IO, (DIFFIO_RX_R26p)/(DIFFOUT_R26p) (io), T22 IO, (DIFFIO_RX_R26n)/(DIFFOUT_R26n) (io), U17 IO, RDN, (DIFFIO_RX_R1n)/(DIFFOUT_R1n) (io), U18 IO, RUP, (DIFFIO_RX_R1p)/(DIFFOUT_R1p) (io), U19 IO, (DIFFIO_RX_R19n)/(DIFFOUT_R19n) (io), U20 IO, (DIFFIO_RX_R23n)/(DIFFOUT_R23n) (io), U21 IO, (DIFFIO_RX_R29p)/(DIFFOUT_R29p) (io), U22 IO, (DIFFIO_RX_R29n)/(DIFFOUT_R29n) (io), V18 IO, (DIFFIO_RX_R19p)/(DIFFOUT_R19p) (io), V20 IO, (DIFFIO_RX_R23p)/(DIFFOUT_R23p) (io), V21 IO, (DIFFIO_RX_R24p)/(DIFFOUT_R24p) (io), V22 IO, (DIFFIO_RX_R24n)/(DIFFOUT_R24n) (io), W19 IO, (DIFFIO_RX_R21p)/(DIFFOUT_R21p) (io), W20 IO, (DIFFIO_RX_R21n)/(DIFFOUT_R21n) (io), W22 IO, (DIFFIO_RX_R20n)/(DIFFOUT_R20n) (io), Y20 IO, (DIFFIO_RX_R22p)/(DIFFOUT_R22p) (io), Y21 IO, (DIFFIO_RX_R22n)/(DIFFOUT_R22n) (io), Y22 IO, (DIFFIO_RX_R20p)/(DIFFOUT_R20p) (io)
part F pins: A21 IO, (DIFFIO_RX_R62n)/(DIFFOUT_R62n) (io), B20 IO, (DIFFIO_RX_R62p)/(DIFFOUT_R62p) (io), B21 IO, (DIFFIO_RX_R60n)/(DIFFOUT_R60n) (io), B22 IO, (DIFFIO_RX_R60p)/(DIFFOUT_R60p) (io), C20 IO, (DIFFIO_RX_R56p)/(DIFFOUT_R56p) (io), C21 IO (io), C22 IO, (DIFFIO_RX_R49n)/(DIFFOUT_R49n) (io), D18 IO, (DIFFIO_RX_R70p)/(DIFFOUT_R70p) (io), D19 IO, (DIFFIO_RX_R56n)/(DIFFOUT_R56n) (io), D21 IO, VREFB6N0 (io), D22 IO, (DIFFIO_RX_R49p)/(DIFFOUT_R49p) (io), E17 IO, (DIFFIO_RX_R59n)/(DIFFOUT_R59n) (io), E18 IO, (DIFFIO_RX_R70n)/(DIFFOUT_R70n) (io), E19 IO, (DIFFIO_RX_R53p)/(DIFFOUT_R53p) (io), E20 IO, (DIFFIO_RX_R54n)/(DIFFOUT_R54n) (io), E21 IO, (DIFFIO_RX_R45n)/(DIFFOUT_R45n) (io), E22 IO, (DIFFIO_RX_R45p)/(DIFFOUT_R45p) (io), F17 IO, (DIFFIO_RX_R59p)/(DIFFOUT_R59p) (io), F18 IO, (DIFFIO_RX_R53n)/(DIFFOUT_R53n) (io), F19 IO, (DIFFIO_RX_R54p)/(DIFFOUT_R54p) (io), F20 IO, (DIFFIO_RX_R48n)/(DIFFOUT_R48n) (io), F21 IO, (DIFFIO_RX_R48p)/(DIFFOUT_R48p) (io), F22 IO, (DIFFIO_RX_R43n)/(DIFFOUT_R43n) (io), G17 IO, PLL_R_CLKOUTn, (DIFFIO_RX_R69n)/(DIFFOUT_R69n) (io), G19 IO, (DIFFIO_RX_R42n)/(DIFFOUT_R42n) (io), G20 IO, (DIFFIO_RX_R42p)/(DIFFOUT_R42p) (io), G22 IO, (DIFFIO_RX_R43p)/(DIFFOUT_R43p) (io), H17 IO, PLL_R_CLKOUTp, (DIFFIO_RX_R69p)/(DIFFOUT_R69p) (io), H18 IO, (DIFFIO_RX_R63n)/(DIFFOUT_R63n) (io), H19 IO, (DIFFIO_RX_R63p)/(DIFFOUT_R63p) (io), H20 IO, (DIFFIO_RX_R64n)/(DIFFOUT_R64n) (io), H21 IO, (DIFFIO_RX_R39n)/(DIFFOUT_R39n) (io), H22 IO, (DIFFIO_RX_R39p)/(DIFFOUT_R39p) (io), J14 IO, (DIFFIO_RX_R61p)/(DIFFOUT_R61p) (io), J15 IO, (DIFFIO_RX_R61n)/(DIFFOUT_R61n) (io), J18 IO, (DIFFIO_RX_R57n)/(DIFFOUT_R57n) (io), J20 IO, (DIFFIO_RX_R64p)/(DIFFOUT_R64p) (io), J21 IO, (DIFFIO_RX_R41n)/(DIFFOUT_R41n) (io), J22 IO, (DIFFIO_RX_R41p)/(DIFFOUT_R41p) (io), K14 IO, (DIFFIO_RX_R55p)/(DIFFOUT_R55p) (io), K15 IO, (DIFFIO_RX_R55n)/(DIFFOUT_R55n) (io), K18 IO, (DIFFIO_RX_R57p)/(DIFFOUT_R57p) (io), K19 IO, (DIFFIO_RX_R58p)/(DIFFOUT_R58p) (io), K20 IO, (DIFFIO_RX_R58n)/(DIFFOUT_R58n) (io), K21 IO, CLK3n, (DIFFIO_RX_R40n)/(DIFFOUT_R40n) (io), K22 IO, CLK3p, (DIFFIO_RX_R40p)/(DIFFOUT_R40p) (io), L14 IO, DPCLK3, (DIFFIO_RX_R50p)/(DIFFOUT_R50p) (io), L15 IO, DPCLK2, (DIFFIO_RX_R50n)/(DIFFOUT_R50n) (io), L18 IO, (DIFFIO_RX_R51n)/(DIFFOUT_R51n) (io), L19 IO, (DIFFIO_RX_R52p)/(DIFFOUT_R52p) (io), L20 IO, (DIFFIO_RX_R52n)/(DIFFOUT_R52n) (io), M14 IO, (DIFFIO_RX_R44n)/(DIFFOUT_R44n) (io), M15 IO, (DIFFIO_RX_R44p)/(DIFFOUT_R44p) (io), M18 IO, (DIFFIO_RX_R51p)/(DIFFOUT_R51p) (io), M20 IO, (DIFFIO_RX_R47p)/(DIFFOUT_R47p) (io), N14 IO, CLK2p, (DIFFIO_RX_R38p)/(DIFFOUT_R38p) (io), N15 IO, CLK2n, (DIFFIO_RX_R38n)/(DIFFOUT_R38n) (io), N18 IO, (DIFFIO_RX_R46p)/(DIFFOUT_R46p) (io), N19 IO, (DIFFIO_RX_R46n)/(DIFFOUT_R46n) (io), N20 IO, (DIFFIO_RX_R47n)/(DIFFOUT_R47n) (io)
part G pins: A7 IO, (DIFFIO_RX_T29p)/(DIFFOUT_T29p) (io), A8 IO, (DIFFIO_RX_T29n)/(DIFFOUT_T29n) (io), A9 IO, (DIFFIO_RX_T31p)/(DIFFOUT_T31p) (io), A10 IO, (DIFFIO_RX_T25n)/(DIFFOUT_T25n) (io), A11 IO, (DIFFIO_RX_T25p)/(DIFFOUT_T25p) (io), A12 IO, (DIFFIO_RX_T23n)/(DIFFOUT_T23n) (io), A13 IO, (DIFFIO_RX_T23p)/(DIFFOUT_T23p) (io), A14 IO, (DIFFIO_RX_T19p)/(DIFFOUT_T19p) (io), A15 IO (io), A16 IO, (DIFFIO_RX_T16n)/(DIFFOUT_T16n) (io), A17 IO, (DIFFIO_RX_T10n)/(DIFFOUT_T10n) (io), A18 IO, (DIFFIO_RX_T10p)/(DIFFOUT_T10p) (io), A19 IO, (DIFFIO_RX_T8n)/(DIFFOUT_T8n) (io), A20 IO, (DIFFIO_RX_T8p)/(DIFFOUT_T8p) (io), B8 IO, (DIFFIO_RX_T31n)/(DIFFOUT_T31n) (io), B10 IO, (DIFFIO_RX_T30p)/(DIFFOUT_T30p) (io), B11 IO, (DIFFIO_RX_T27n)/(DIFFOUT_T27n) (io), B12 IO, (DIFFIO_RX_T27p)/(DIFFOUT_T27p) (io), B14 IO, (DIFFIO_RX_T19n)/(DIFFOUT_T19n) (io), B15 IO, VREFB7N0 (io), B16 IO, (DIFFIO_RX_T16p)/(DIFFOUT_T16p) (io), B17 IO, (DIFFIO_RX_T7n)/(DIFFOUT_T7n) (io), B19 IO, (DIFFIO_RX_T6n)/(DIFFOUT_T6n) (io), C9 IO, (DIFFIO_RX_T30n)/(DIFFOUT_T30n) (io), C10 IO, (DIFFIO_RX_T26n)/(DIFFOUT_T26n) (io), C11 IO, (DIFFIO_RX_T26p)/(DIFFOUT_T26p) (io), C12 IO, (DIFFIO_RX_T24p)/(DIFFOUT_T24p) (io), C13 IO, (DIFFIO_RX_T18n)/(DIFFOUT_T18n) (io), C14 IO, (DIFFIO_RX_T18p)/(DIFFOUT_T18p) (io), C15 IO, (DIFFIO_RX_T15n)/(DIFFOUT_T15n) (io), C16 IO, (DIFFIO_RX_T15p)/(DIFFOUT_T15p) (io), C17 IO, (DIFFIO_RX_T2n)/(DIFFOUT_T2n) (io), C18 IO, (DIFFIO_RX_T7p)/(DIFFOUT_T7p) (io), C19 IO, (DIFFIO_RX_T6p)/(DIFFOUT_T6p) (io), D12 IO, (DIFFIO_RX_T24n)/(DIFFOUT_T24n) (io), D13 IO, (DIFFIO_RX_T21n)/(DIFFOUT_T21n) (io), D14 IO, (DIFFIO_RX_T20p)/(DIFFOUT_T20p) (io), D15 IO, (DIFFIO_RX_T9p)/(DIFFOUT_T9p) (io), D17 IO, (DIFFIO_RX_T2p)/(DIFFOUT_T2p) (io), E12 IO, (DIFFIO_RX_T21p)/(DIFFOUT_T21p) (io), E13 IO, (DIFFIO_RX_T20n)/(DIFFOUT_T20n) (io), E14 IO, (DIFFIO_RX_T9n)/(DIFFOUT_T9n) (io), E15 IO, (DIFFIO_RX_T1n)/(DIFFOUT_T1n) (io), E16 IO, (DIFFIO_RX_T1p)/(DIFFOUT_T1p) (io), F15 IO, (DIFFIO_RX_T5n)/(DIFFOUT_T5n) (io), F16 IO, (DIFFIO_RX_T5p)/(DIFFOUT_T5p) (io), H12 IO, (DIFFIO_RX_T28p)/(DIFFOUT_T28p) (io), H13 IO, (DIFFIO_RX_T22p)/(DIFFOUT_T22p) (io), H14 IO, (DIFFIO_RX_T17p)/(DIFFOUT_T17p) (io), J11 IO, (DIFFIO_RX_T28n)/(DIFFOUT_T28n) (io), J12 IO, (DIFFIO_RX_T22n)/(DIFFOUT_T22n) (io), J13 IO, (DIFFIO_RX_T17n)/(DIFFOUT_T17n) (io)
part H pins: A2 IO, (DIFFIO_RX_T45p)/(DIFFOUT_T45p) (io), A3 IO, (DIFFIO_RX_T45n)/(DIFFOUT_T45n) (io), A4 IO, (DIFFIO_RX_T43n)/(DIFFOUT_T43n) (io), A5 IO, (DIFFIO_RX_T43p)/(DIFFOUT_T43p) (io), A6 IO, (DIFFIO_RX_T41n)/(DIFFOUT_T41n) (io), B1 IO, (DIFFIO_RX_T51n)/(DIFFOUT_T51n) (io), B2 IO, (DIFFIO_RX_T51p)/(DIFFOUT_T51p) (io), B3 IO, (DIFFIO_RX_T46p)/(DIFFOUT_T46p) (io), B4 IO, (DIFFIO_RX_T46n)/(DIFFOUT_T46n) (io), B5 IO, (DIFFIO_RX_T47p)/(DIFFOUT_T47p) (io), B7 IO, (DIFFIO_RX_T41p)/(DIFFOUT_T41p) (io), C2 IO, (DIFFIO_RX_T53n)/(DIFFOUT_T53n) (io), C3 IO, (DIFFIO_RX_T53p)/(DIFFOUT_T53p) (io), C4 IO, (DIFFIO_RX_T47n)/(DIFFOUT_T47n) (io), C5 IO, (DIFFIO_RX_T49p)/(DIFFOUT_T49p) (io), C6 IO (io), C7 IO, (DIFFIO_RX_T39n)/(DIFFOUT_T39n) (io), C8 IO, (DIFFIO_RX_T39p)/(DIFFOUT_T39p) (io), D5 IO, (DIFFIO_RX_T49n)/(DIFFOUT_T49n) (io), D6 IO, PLL_T_CLKOUTp, (DIFFIO_RX_T52p)/(DIFFOUT_T52p) (io), D7 IO, VREFB8N0 (io), D8 IO, (DIFFIO_RX_T42p)/(DIFFOUT_T42p) (io), D9 IO, (DEV_CLRn), (DIFFIO_RX_T42n)/(DIFFOUT_T42n) (io), D10 IO, (DEV_OE), (DIFFIO_RX_T44p)/(DIFFOUT_T44p) (io), E6 IO, PLL_T_CLKOUTn, (DIFFIO_RX_T52n)/(DIFFOUT_T52n) (io), E8 IO, (DIFFIO_RX_T48p)/(DIFFOUT_T48p) (io), E9 IO, (DIFFIO_RX_T44n)/(DIFFOUT_T44n) (io), E10 IO, CLK4n, (DIFFIO_RX_T38n)/(DIFFOUT_T38n) (io), E11 IO, CLK4p, (DIFFIO_RX_T38p)/(DIFFOUT_T38p) (io), F7 IO, (CRC_ERROR), (DIFFIO_RX_T48n)/(DIFFOUT_T48n) (io), F8 IO, (CONF_DONE), (DIFFIO_RX_T50n)/(DIFFOUT_T50n) (io), G9 IO, (nSTATUS), (DIFFIO_RX_T50p)/(DIFFOUT_T50p) (io), H9 Input_only, (nCONFIG) (in), H10 IO, (CONFIG_SEL) (io), H11 IO, CLK5n, (DIFFIO_RX_T40n)/(DIFFOUT_T40n) (io), J10 IO, CLK5p, (DIFFIO_RX_T40p)/(DIFFOUT_T40p) (io)
part I pins: G5 ANAIN1 (in), H5 REFGND (power), H6 ADC_VREF (power), H7 VCCA_ADC (power), J5 ANAIN2 (in)
part J pins: E5 NC (io), F6 NC (io), F9 VCCIO8 (power), F11 VCCIO8 (power), F12 VCCIO7 (power), F14 VCCIO7 (power), G7 VCCD_PLL3 (power), G10 VCCIO8 (power), G11 VCCIO8 (power), G12 VCCIO7 (power), G13 VCCIO7 (power), G14 VCCIO7 (power), G16 VCCD_PLL2 (power), H8 VCCA3 (power), H15 VCCA2 (power), H16 VCCIO6 (power), J7 VCCINT (power), J17 VCCIO6 (power), K7 VCCIO1A (power), K11 VCC (power), K13 VCC (power), K16 VCCIO6 (power), K17 VCCIO6 (power), L3 DNU (io), L6 VCCIO1A (power), L7 VCCIO1B (power), L10 VCC (power), L11 VCC (power), L12 VCC (power), L16 VCCIO6 (power), M6 VCCIO1B (power), M11 VCC (power), M12 VCC (power), M13 VCC (power), M17 VCCIO6 (power), N6 VCCIO2 (power), N7 VCCIO2 (power), N10 VCC (power), N12 VCC (power), N16 VCCIO5 (power), N17 VCCIO6 (power), P7 VCCIO2 (power), P16 VCCIO5 (power), R6 VCCIO2 (power), R8 VCCA1 (power), R16 VCCIO5 (power), R17 VCCIO5 (power), T7 VCCD_PLL1 (power), T9 VCCIO3 (power), T10 VCCIO3 (power), T11 VCCIO3 (power), T12 VCCIO4 (power), T13 VCCIO4 (power), T15 VCCA4 (power), T17 VCCIO5 (power), U8 VCCIO3 (power), U9 VCCIO3 (power), U11 VCCIO4 (power), U12 VCCIO4 (power), U14 VCCIO4 (power), U16 VCCD_PLL4 (power)
part K pins: A1 GND (power), A22 GND (power), AA4 GND (power), AA18 GND (power), AB1 GND (power), AB22 GND (power), B6 GND (power), B9 GND (power), B13 GND (power), B18 GND (power), D4 GND (power), D11 GND (power), D16 GND (power), D20 GND (power), E2 GND (power), E7 GND (power), F10 GND (power), F13 GND (power), G6 GND (power), G8 GND (power), G15 GND (power), G18 GND (power), G21 GND (power), J2 GND (power), J6 GND (power), J16 GND (power), J19 GND (power), K3 GND (power), K10 GND (power), K12 GND (power), L5 GND (power), L13 GND (power), L17 GND (power), L21 GND (power), M7 GND (power), M10 GND (power), M16 GND (power), M19 GND (power), N11 GND (power), N13 GND (power), P2 GND (power), P6 GND (power), P17 GND (power), R19 GND (power), R21 GND (power), T4 GND (power), T8 GND (power), T14 GND (power), T16 GND (power), U10 GND (power), U13 GND (power), V2 GND (power), V6 GND (power), V19 GND (power), W21 GND (power), Y9 GND (power), Y12 GND (power), Y15 GND (power)
part A text: BANK 1
part B text: BANK 2
part C text: BANK 3
part D text: BANK 4
part E text: BANK 5
part F text: BANK 6
part G text: BANK 7
part H text: BANK 8

## 24AA02E48T-I/OT
designator IC?
1.7V-5.5V, 2K I2C Serial EEPROM With EUI-48 Node Identity
pins: 1 SCL (in), 2 VSS (power), 3 SDA (io), 4 VCC (power), 5 NC

## 24AA025E48-I/SN
designator IC?
1.7V-5.5V, 2K I2C™ Serial EEPROMs with EUI-48™ Node Identity
pins: 1 A0 (in), 2 A1 (in), 3 A2 (in), 4 VSS (power), 5 SDA (io), 6 SCL (in), 7 NC, 8 VCC (power)

## 24AA64T-I/MC
designator IC?
1.7V-5.5V 64K I2C Serial EEPROM
pins: 1 A0 (in), 2 A1 (in), 3 A2 (in), 4 VSS (power), 5 SDA (io), 6 SCL (in), 7 WP (in), 8 VCC (power), 9 EP (power)

## 24AA64T-I/MS
designator IC?
1.7V-5.5V, 64K  (8K x 8-bit) I2C Serial EEPROM
pins: 1 A0 (in), 2 A1 (in), 3 A2 (in), 4 VSS (power), 5 SDA (io), 6 SCL (in), 7 WP (in), 8 VCC (power)

## 24AA256-I/SN
designator IC?
1.7V-5.5V, 256K (32k x 8-bit) I2C Serial EEPROM
pins: 1 A0 (in), 2 A1 (in), 3 A2 (in), 4 VSS (power), 5 SDA (io), 6 SCL (in), 7 WP (in), 8 VCC (power)

## 24FC64-I/MC
designator IC?
64K I2C Serial EEPROM
pins: 1 A0 (in), 2 A1 (in), 3 A2 (in), 4 VSS (power), 5 SDA (io), 6 SCL (in), 7 WP (in), 8 VCC (power), 9 EP (power)

## 24LC024H-I/SN
designator IC?
2K I2C Serial EEPROM With Half-Array Write Protect
pins: 1 A0 (in), 2 A1 (in), 3 A2 (in), 4 VSS (power), 5 SDA (io), 6 SCL (in), 7 WP (in), 8 VCC (power)

## 24LC64-I/MS
designator IC?
64K I2C Serial EEPROM
pins: 1 A0 (in), 2 A1 (in), 3 A2 (in), 4 VSS (power), 5 SDA (io), 6 SCL (in), 7 WP (in), 8 VCC (power)

## 24LC256-I/SN
designator IC?
2.5V-5.5V, 256K (32k x 8-bit) I2C Serial EEPROM
pins: 1 A0 (in), 2 A1 (in), 3 A2 (in), 4 VSS (power), 5 SDA (io), 6 SCL (in), 7 WP (in), 8 VCC (power)

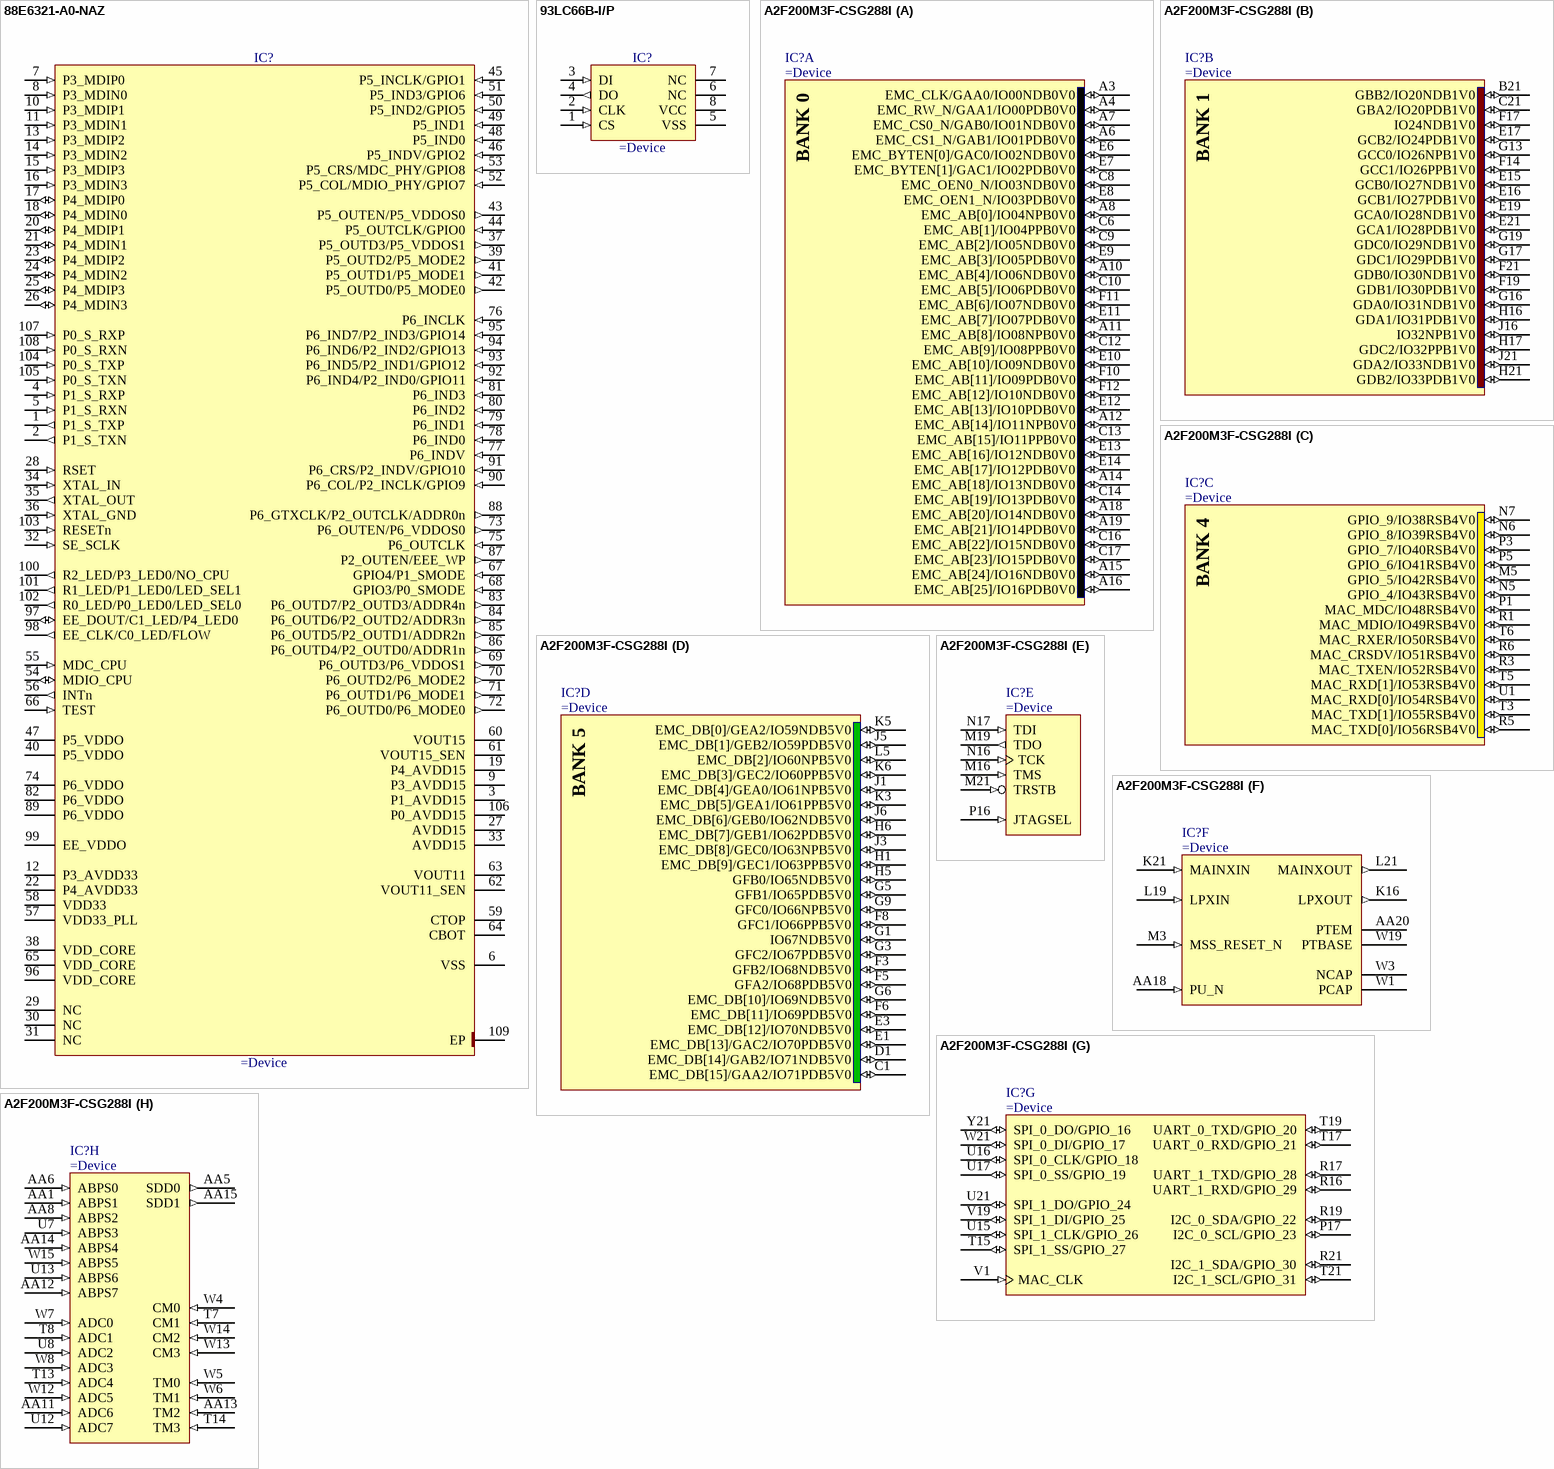
[diagram p20: symbols 88E6321-A0-NAZ to A2F200M3F-CSG288I]

## 88E6321-A0-NAZ
designator IC?
7 Port Gigabit AVB Switch With 2 PHYs And Energy Efficient Ethernet (EEE)
pins: 1 P1_S_TXP (out), 2 P1_S_TXN (out), 3 P1_AVDD15 (power), 4 P1_S_RXP (in), 5 P1_S_RXN (in), 6 VSS (power), 7 P3_MDIP0 (in), 8 P3_MDIN0 (in), 9 P3_AVDD15 (power), 10 P3_MDIP1 (in), 11 P3_MDIN1 (in), 12 P3_AVDD33 (power), 13 P3_MDIP2 (in), 14 P3_MDIN2 (in), 15 P3_MDIP3 (in), 16 P3_MDIN3 (in), 17 P4_MDIP0 (io), 18 P4_MDIN0 (io), 19 P4_AVDD15 (power), 20 P4_MDIP1 (io), 21 P4_MDIN1 (io), 22 P4_AVDD33 (power), 23 P4_MDIP2 (io), 24 P4_MDIN2 (io), 25 P4_MDIP3 (io), 26 P4_MDIN3 (io), 27 AVDD15 (power), 28 RSET (in), 29 NC (power), 30 NC (power), 31 NC (power), 32 SE_SCLK (in), 33 AVDD15 (power), 34 XTAL_IN (in), 35 XTAL_OUT (out), 36 XTAL_GND (in), 37 P5_OUTD3/P5_VDDOS1 (out), 38 VDD_CORE (power), 39 P5_OUTD2/P5_MODE2 (out), 40 P5_VDDO (power), 41 P5_OUTD1/P5_MODE1 (out), 42 P5_OUTD0/P5_MODE0 (out), 43 P5_OUTEN/P5_VDDOS0 (out), 44 P5_OUTCLK/GPIO0 (in), 45 P5_INCLK/GPIO1 (in), 46 P5_INDV/GPIO2 (in), 47 P5_VDDO (power), 48 P5_IND0 (in), 49 P5_IND1 (in), 50 P5_IND2/GPIO5 (in), 51 P5_IND3/GPIO6 (in), 52 P5_COL/MDIO_PHY/GPIO7 (in), 53 P5_CRS/MDC_PHY/GPIO8 (in), 54 MDIO_CPU (io), 55 MDC_CPU (in), 56 INTn (out), 57 VDD33_PLL (power), 58 VDD33 (power), 59 CTOP (power), 60 VOUT15 (power), 61 VOUT15_SEN (power), 62 VOUT11_SEN (power), 63 VOUT11 (power), 64 CBOT (power), 65 VDD_CORE (power), 66 TEST (in), 67 GPIO4/P1_SMODE (in), 68 GPIO3/P0_SMODE (in), 69 P6_OUTD3/P6_VDDOS1 (out), 70 P6_OUTD2/P6_MODE2 (out), 71 P6_OUTD1/P6_MODE1 (out), 72 P6_OUTD0/P6_MODE0 (out), 73 P6_OUTEN/P6_VDDOS0 (out), 74 P6_VDDO (power), 75 P6_OUTCLK (in), 76 P6_INCLK (in), 77 P6_INDV (in), 78 P6_IND0 (in), 79 P6_IND1 (in), 80 P6_IND2 (in), 81 P6_IND3 (in), 82 P6_VDDO (power), 83 P6_OUTD7/P2_OUTD3/ADDR4n (out), 84 P6_OUTD6/P2_OUTD2/ADDR3n (out), 85 P6_OUTD5/P2_OUTD1/ADDR2n (out), 86 P6_OUTD4/P2_OUTD0/ADDR1n (out), 87 P2_OUTEN/EEE_WP (out), 88 P6_GTXCLK/P2_OUTCLK/ADDR0n (out), 89 P6_VDDO (power), 90 P6_COL/P2_INCLK/GPIO9 (in), 91 P6_CRS/P2_INDV/GPIO10 (in), 92 P6_IND4/P2_IND0/GPIO11 (in), 93 P6_IND5/P2_IND1/GPIO12 (in), 94 P6_IND6/P2_IND2/GPIO13 (in), 95 P6_IND7/P2_IND3/GPIO14 (in), 96 VDD_CORE (power), 97 EE_DOUT/C1_LED/P4_LED0 (io), 98 EE_CLK/C0_LED/FLOW (out), 99 EE_VDDO (power), 100 R2_LED/P3_LED0/NO_CPU (out), 101 R1_LED/P1_LED0/LED_SEL1 (out), 102 R0_LED/P0_LED0/LED_SEL0 (out), 103 RESETn (in), 104 P0_S_TXP (in), 105 P0_S_TXN (in), 106 P0_AVDD15 (power), 107 P0_S_RXP (in), 108 P0_S_RXN (in), 109 EP (power)

## 93LC66B-I/P
designator IC?
4K, 256x16-bit, 2.5V Microwire Serial EEPROM, 8-Pin PDIP, Industrial Temperature
pins: 1 CS (in), 2 CLK (in), 3 DI (in), 4 DO (out), 5 VSS (power), 6 NC, 7 NC, 8 VCC (power)

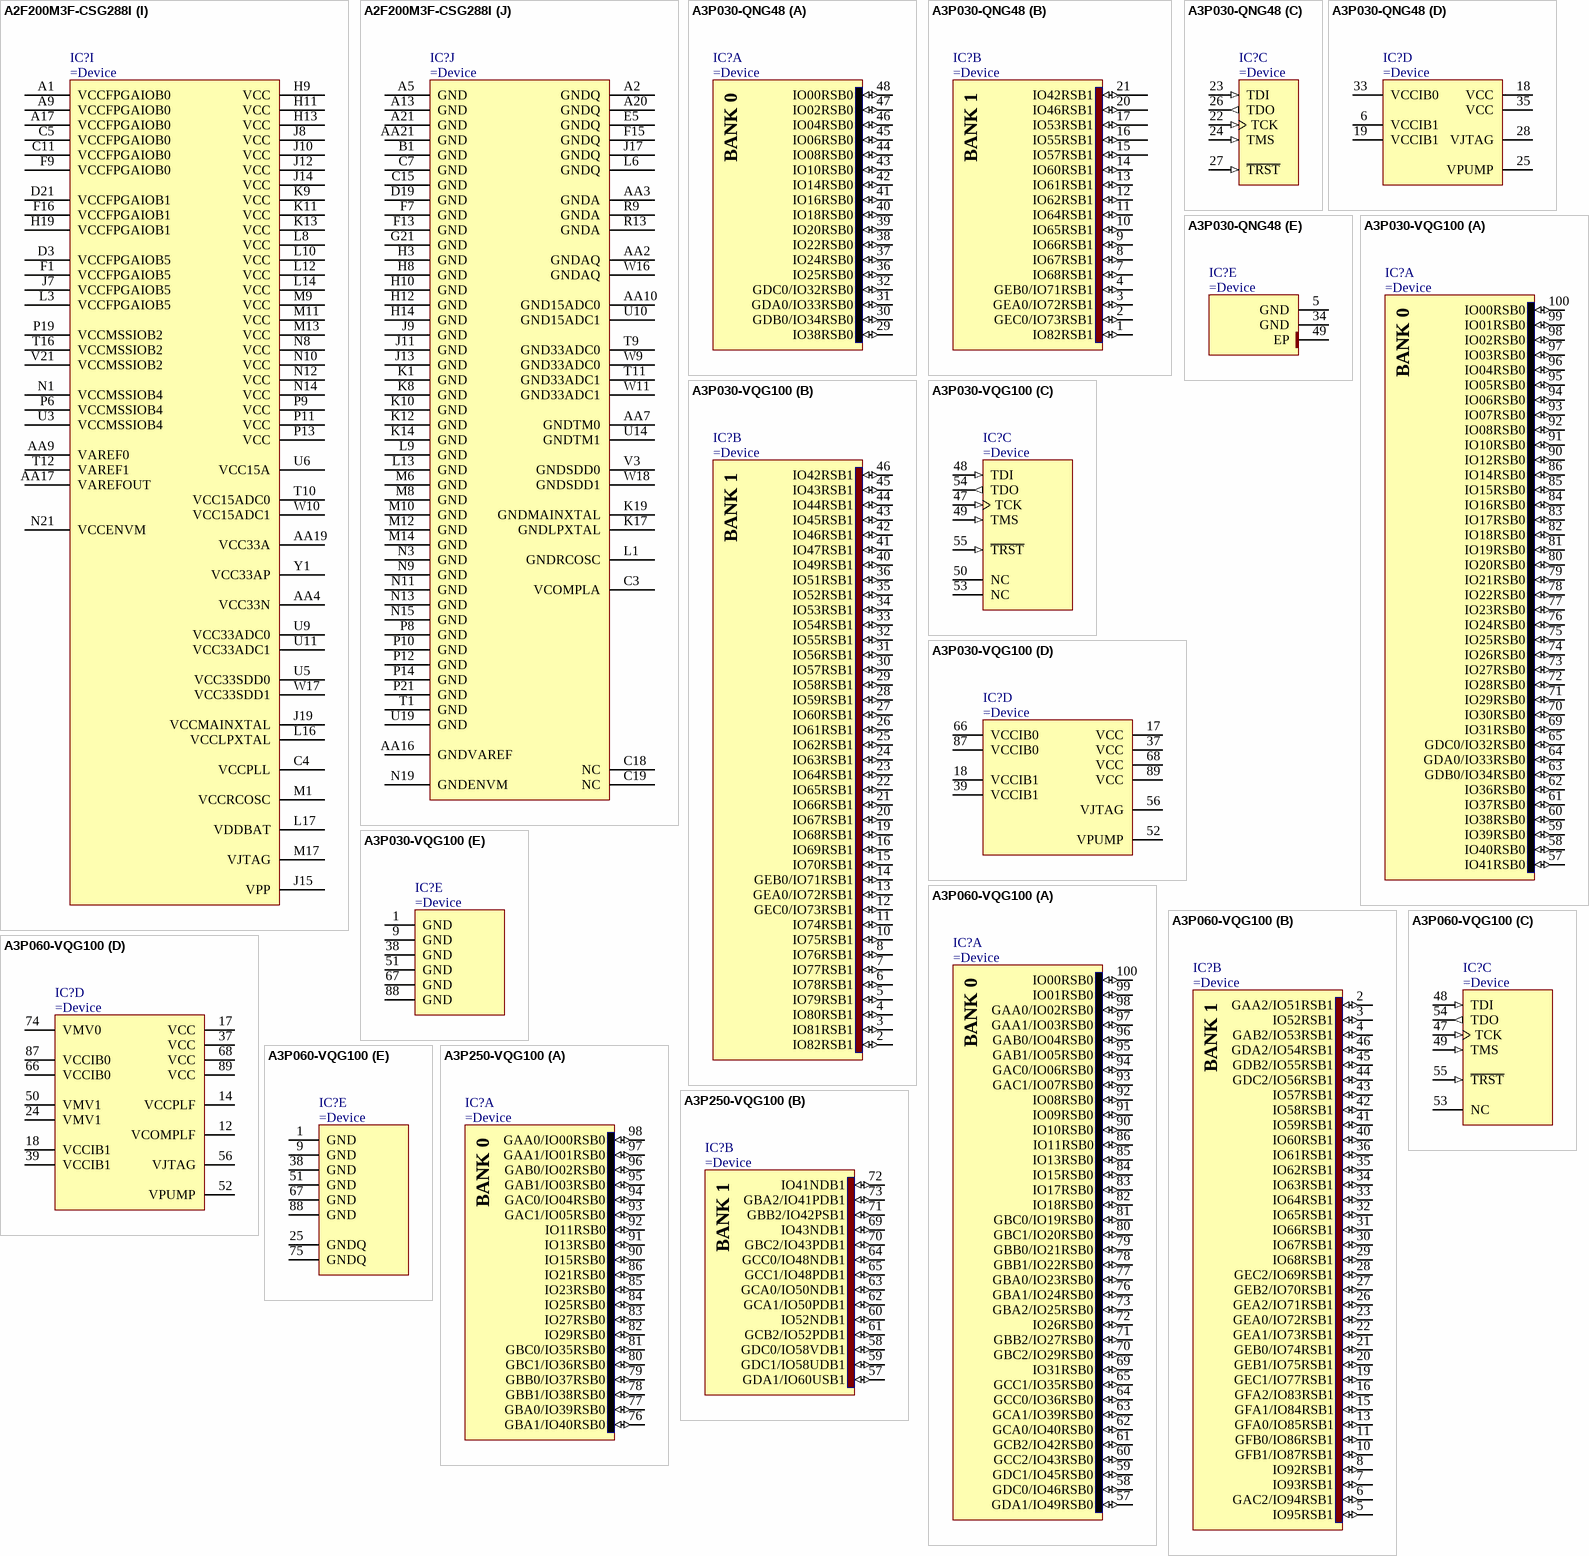
[diagram p21: symbols A2F200M3F-CSG288I to A3P250-VQG100]

## A2F200M3F-CSG288I
designator IC?
SmartFusion Intelligent Mixed-Signal FPGA with ARM Cortex-M3, 200000 System Gates, 288-Pin CSP, Standard Speed Grade, Industrial Grade, Pb-Free
part A pins: A3 EMC_CLK/GAA0/IO00NDB0V0 (io), A4 EMC_RW_N/GAA1/IO00PDB0V0 (io), A6 EMC_CS1_N/GAB1/IO01PDB0V0 (io), A7 EMC_CS0_N/GAB0/IO01NDB0V0 (io), A8 EMC_AB[0]/IO04NPB0V0 (io), A10 EMC_AB[4]/IO06NDB0V0 (io), A11 EMC_AB[8]/IO08NPB0V0 (io), A12 EMC_AB[14]/IO11NPB0V0 (io), A14 EMC_AB[18]/IO13NDB0V0 (io), A15 EMC_AB[24]/IO16NDB0V0 (io), A16 EMC_AB[25]/IO16PDB0V0 (io), A18 EMC_AB[20]/IO14NDB0V0 (io), A19 EMC_AB[21]/IO14PDB0V0 (io), C6 EMC_AB[1]/IO04PPB0V0 (io), C8 EMC_OEN0_N/IO03NDB0V0 (io), C9 EMC_AB[2]/IO05NDB0V0 (io), C10 EMC_AB[5]/IO06PDB0V0 (io), C12 EMC_AB[9]/IO08PPB0V0 (io), C13 EMC_AB[15]/IO11PPB0V0 (io), C14 EMC_AB[19]/IO13PDB0V0 (io), C16 EMC_AB[22]/IO15NDB0V0 (io), C17 EMC_AB[23]/IO15PDB0V0 (io), E6 EMC_BYTEN[0]/GAC0/IO02NDB0V0 (io), E7 EMC_BYTEN[1]/GAC1/IO02PDB0V0 (io), E8 EMC_OEN1_N/IO03PDB0V0 (io), E9 EMC_AB[3]/IO05PDB0V0 (io), E10 EMC_AB[10]/IO09NDB0V0 (io), E11 EMC_AB[7]/IO07PDB0V0 (io), E12 EMC_AB[13]/IO10PDB0V0 (io), E13 EMC_AB[16]/IO12NDB0V0 (io), E14 EMC_AB[17]/IO12PDB0V0 (io), F10 EMC_AB[11]/IO09PDB0V0 (io), F11 EMC_AB[6]/IO07NDB0V0 (io), F12 EMC_AB[12]/IO10NDB0V0 (io)
part B pins: B21 GBB2/IO20NDB1V0 (io), C21 GBA2/IO20PDB1V0 (io), E15 GCB0/IO27NDB1V0 (io), E16 GCB1/IO27PDB1V0 (io), E17 GCB2/IO24PDB1V0 (io), E19 GCA0/IO28NDB1V0 (io), E21 GCA1/IO28PDB1V0 (io), F14 GCC1/IO26PPB1V0 (io), F17 IO24NDB1V0 (io), F19 GDB1/IO30PDB1V0 (io), F21 GDB0/IO30NDB1V0 (io), G13 GCC0/IO26NPB1V0 (io), G16 GDA0/IO31NDB1V0 (io), G17 GDC1/IO29PDB1V0 (io), G19 GDC0/IO29NDB1V0 (io), H16 GDA1/IO31PDB1V0 (io), H17 GDC2/IO32PPB1V0 (io), H21 GDB2/IO33PDB1V0 (io), J16 IO32NPB1V0 (io), J21 GDA2/IO33NDB1V0 (io)
part C pins: M5 GPIO_5/IO42RSB4V0 (io), N5 GPIO_4/IO43RSB4V0 (io), N6 GPIO_8/IO39RSB4V0 (io), N7 GPIO_9/IO38RSB4V0 (io), P1 MAC_MDC/IO48RSB4V0 (io), P3 GPIO_7/IO40RSB4V0 (io), P5 GPIO_6/IO41RSB4V0 (io), R1 MAC_MDIO/IO49RSB4V0 (io), R3 MAC_TXEN/IO52RSB4V0 (io), R5 MAC_TXD[0]/IO56RSB4V0 (io), R6 MAC_CRSDV/IO51RSB4V0 (io), T3 MAC_TXD[1]/IO55RSB4V0 (io), T5 MAC_RXD[1]/IO53RSB4V0 (io), T6 MAC_RXER/IO50RSB4V0 (io), U1 MAC_RXD[0]/IO54RSB4V0 (io)
part D pins: C1 EMC_DB[15]/GAA2/IO71PDB5V0 (io), D1 EMC_DB[14]/GAB2/IO71NDB5V0 (io), E1 EMC_DB[13]/GAC2/IO70PDB5V0 (io), E3 EMC_DB[12]/IO70NDB5V0 (io), F3 GFB2/IO68NDB5V0 (io), F5 GFA2/IO68PDB5V0 (io), F6 EMC_DB[11]/IO69PDB5V0 (io), F8 GFC1/IO66PPB5V0 (io), G1 IO67NDB5V0 (io), G3 GFC2/IO67PDB5V0 (io), G5 GFB1/IO65PDB5V0 (io), G6 EMC_DB[10]/IO69NDB5V0 (io), G9 GFC0/IO66NPB5V0 (io), H1 EMC_DB[9]/GEC1/IO63PPB5V0 (io), H5 GFB0/IO65NDB5V0 (io), H6 EMC_DB[7]/GEB1/IO62PDB5V0 (io), J1 EMC_DB[4]/GEA0/IO61NPB5V0 (io), J3 EMC_DB[8]/GEC0/IO63NPB5V0 (io), J5 EMC_DB[1]/GEB2/IO59PDB5V0 (io), J6 EMC_DB[6]/GEB0/IO62NDB5V0 (io), K3 EMC_DB[5]/GEA1/IO61PPB5V0 (io), K5 EMC_DB[0]/GEA2/IO59NDB5V0 (io), K6 EMC_DB[3]/GEC2/IO60PPB5V0 (io), L5 EMC_DB[2]/IO60NPB5V0 (io)
part E pins: M16 TMS (in), M19 TDO (out), M21 TRSTB (in), N16 TCK (in), N17 TDI (in), P16 JTAGSEL (in)
part F pins: AA18 PU_N (in), AA20 PTEM, K16 LPXOUT (out), K21 MAINXIN (in), L19 LPXIN (in), L21 MAINXOUT (out), M3 MSS_RESET_N (in), W1 PCAP, W3 NCAP, W19 PTBASE
part G pins: P17 I2C_0_SCL/GPIO_23 (io), R16 UART_1_RXD/GPIO_29 (io), R17 UART_1_TXD/GPIO_28 (io), R19 I2C_0_SDA/GPIO_22 (io), R21 I2C_1_SDA/GPIO_30 (io), T15 SPI_1_SS/GPIO_27 (io), T17 UART_0_RXD/GPIO_21 (io), T19 UART_0_TXD/GPIO_20 (io), T21 I2C_1_SCL/GPIO_31 (io), U15 SPI_1_CLK/GPIO_26 (io), U16 SPI_0_CLK/GPIO_18 (io), U17 SPI_0_SS/GPIO_19 (io), U21 SPI_1_DO/GPIO_24 (io), V1 MAC_CLK (in), V19 SPI_1_DI/GPIO_25 (io), W21 SPI_0_DI/GPIO_17 (io), Y21 SPI_0_DO/GPIO_16 (io)
part H pins: AA1 ABPS1 (in), AA5 SDD0 (out), AA6 ABPS0 (in), AA8 ABPS2 (in), AA11 ADC6 (in), AA12 ABPS7 (in), AA13 TM2 (in), AA14 ABPS4 (in), AA15 SDD1 (out), T7 CM1 (in), T8 ADC1 (in), T13 ADC4 (in), T14 TM3 (in), U7 ABPS3 (in), U8 ADC2 (in), U12 ADC7 (in), U13 ABPS6 (in), W4 CM0 (in), W5 TM0 (in), W6 TM1 (in), W7 ADC0 (in), W8 ADC3 (in), W12 ADC5 (in), W13 CM3 (in), W14 CM2 (in), W15 ABPS5 (in)
part I pins: A1 VCCFPGAIOB0 (power), A9 VCCFPGAIOB0 (power), A17 VCCFPGAIOB0 (power), AA4 VCC33N (power), AA9 VAREF0 (power), AA17 VAREFOUT (power), AA19 VCC33A (power), C4 VCCPLL (power), C5 VCCFPGAIOB0 (power), C11 VCCFPGAIOB0 (power), D3 VCCFPGAIOB5 (power), D21 VCCFPGAIOB1 (power), F1 VCCFPGAIOB5 (power), F9 VCCFPGAIOB0 (power), F16 VCCFPGAIOB1 (power), H9 VCC (power), H11 VCC (power), H13 VCC (power), H19 VCCFPGAIOB1 (power), J7 VCCFPGAIOB5 (power), J8 VCC (power), J10 VCC (power), J12 VCC (power), J14 VCC (power), J15 VPP (power), J19 VCCMAINXTAL (power), K9 VCC (power), K11 VCC (power), K13 VCC (power), L3 VCCFPGAIOB5 (power), L8 VCC (power), L10 VCC (power), L12 VCC (power), L14 VCC (power), L16 VCCLPXTAL (power), L17 VDDBAT (power), M1 VCCRCOSC (power), M9 VCC (power), M11 VCC (power), M13 VCC (power), M17 VJTAG (power), N1 VCCMSSIOB4 (power), N8 VCC (power), N10 VCC (power), N12 VCC (power), N14 VCC (power), N21 VCCENVM (power), P6 VCCMSSIOB4 (power), P9 VCC (power), P11 VCC (power), P13 VCC (power), P19 VCCMSSIOB2 (power), T10 VCC15ADC0 (power), T12 VAREF1 (power), T16 VCCMSSIOB2 (power), U3 VCCMSSIOB4 (power), U5 VCC33SDD0 (power), U6 VCC15A (power), U9 VCC33ADC0 (power), U11 VCC33ADC1 (power), V21 VCCMSSIOB2 (power), W10 VCC15ADC1 (power), W17 VCC33SDD1 (power), Y1 VCC33AP (power)
part J pins: A2 GNDQ (power), A5 GND (power), A13 GND (power), A20 GNDQ (power), A21 GND (power), AA2 GNDAQ (power), AA3 GNDA (power), AA7 GNDTM0 (power), AA10 GND15ADC0 (power), AA16 GNDVAREF (power), AA21 GND (power), B1 GND (power), C3 VCOMPLA (power), C7 GND (power), C15 GND (power), C18 NC, C19 NC, D19 GND (power), E5 GNDQ (power), F7 GND (power), F13 GND (power), F15 GNDQ (power), G21 GND (power), H3 GND (power), H8 GND (power), H10 GND (power), H12 GND (power), H14 GND (power), J9 GND (power), J11 GND (power), J13 GND (power), J17 GNDQ (power), K1 GND (power), K8 GND (power), K10 GND (power), K12 GND (power), K14 GND (power), K17 GNDLPXTAL (power), K19 GNDMAINXTAL (power), L1 GNDRCOSC (power), L6 GNDQ (power), L9 GND (power), L13 GND (power), M6 GND (power), M8 GND (power), M10 GND (power), M12 GND (power), M14 GND (power), N3 GND (power), N9 GND (power), N11 GND (power), N13 GND (power), N15 GND (power), N19 GNDENVM (power), P8 GND (power), P10 GND (power), P12 GND (power), P14 GND (power), P21 GND (power), R9 GNDA (power), R13 GNDA (power), T1 GND (power), T9 GND33ADC0 (power), T11 GND33ADC1 (power), U10 GND15ADC1 (power), U14 GNDTM1 (power), U19 GND (power), V3 GNDSDD0 (power), W9 GND33ADC0 (power), W11 GND33ADC1 (power), W16 GNDAQ (power), W18 GNDSDD1 (power)
part A text: BANK 0
part B text: BANK 1
part C text: BANK 4
part D text: BANK 5